# Altium integrated library Xilinx Spartan.IntLib: 39 symbols (part 1 of 3)
Pins are listed as number, name and electrical type; pins without a type are passive.

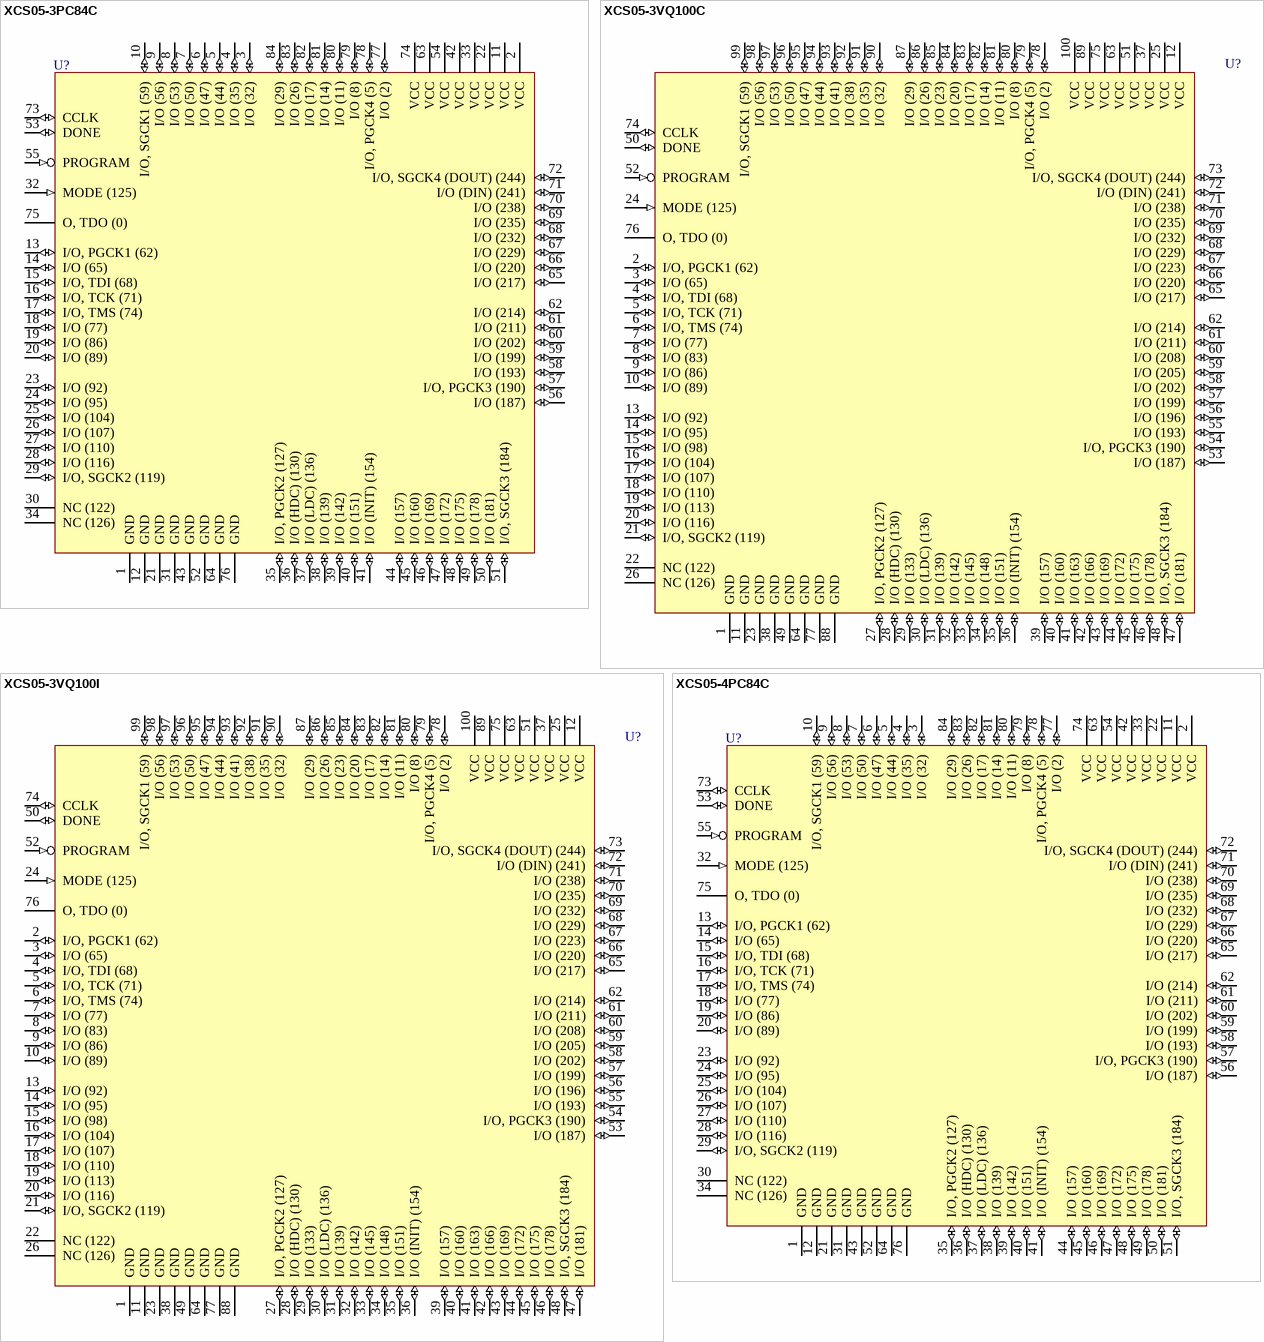
[diagram p0: symbols XCS05-3PC84C to XCS05-4PC84C]

## XCS05-3PC84C
designator U?
Spartan FPGA, 84-Pin PLCC, Commercial Grade; PackageDocument: ver1.0, Jun-2000; Published: 13-Jul-2001; LatestRevisionDate: 17-Jul-2002; LatestRevisionNote: Re-released for DXP Platform.; DatasheetDocument: Jun-2002; PackageReference: PC84; Publisher: Altium Limited; Code_JEDEC: MS-047; Code_IPC: PLCC-84
footprint PC84 (84-Pin Plastic Leaded Chip Carrier (PC84))
3D model XCS05-PC84 (84-Pin Plastic Leaded Chip Carrier (PC84))
pins: 1 GND (power), 2 VCC (power), 3 I/O (32) (io), 4 I/O (35) (io), 5 I/O (44) (io), 6 I/O (47) (io), 7 I/O (50) (io), 8 I/O (53) (io), 9 I/O (56) (io), 10 I/O, SGCK1 (59) (io), 11 VCC (power), 12 GND (power), 13 I/O, PGCK1 (62) (io), 14 I/O (65) (io), 15 I/O, TDI (68) (io), 16 I/O, TCK (71) (io), 17 I/O, TMS (74) (io), 18 I/O (77) (io), 19 I/O (86) (io), 20 I/O (89) (io), 21 GND (power), 22 VCC (power), 23 I/O (92) (io), 24 I/O (95) (io), 25 I/O (104) (io), 26 I/O (107) (io), 27 I/O (110) (io), 28 I/O (116) (io), 29 I/O, SGCK2 (119) (io), 30 NC (122), 31 GND (power), 32 MODE (125) (in), 33 VCC (power), 34 NC (126), 35 I/O, PGCK2 (127) (io), 36 I/O (HDC) (130) (io), 37 I/O (LDC) (136) (io), 38 I/O (139) (io), 39 I/O (142) (io), 40 I/O (151) (io), 41 I/O (INIT) (154) (io), 42 VCC (power), 43 GND (power), 44 I/O (157) (io), 45 I/O (160) (io), 46 I/O (169) (io), 47 I/O (172) (io), 48 I/O (175) (io), 49 I/O (178) (io), 50 I/O (181) (io), 51 I/O, SGCK3 (184) (io), 52 GND (power), 53 DONE (io), 54 VCC (power), 55 PROGRAM (in), 56 I/O (187) (io), 57 I/O, PGCK3 (190) (io), 58 I/O (193) (io), 59 I/O (199) (io), 60 I/O (202) (io), 61 I/O (211) (io), 62 I/O (214) (io), 63 VCC (power), 64 GND (power), 65 I/O (217) (io), 66 I/O (220) (io), 67 I/O (229) (io), 68 I/O (232) (io), 69 I/O (235) (io), 70 I/O (238) (io), 71 I/O (DIN) (241) (io), 72 I/O, SGCK4 (DOUT) (244) (io), 73 CCLK (io), 74 VCC (power), 75 O, TDO (0) (hiz), 76 GND (power), 77 I/O (2) (io), 78 I/O, PGCK4 (5) (io), 79 I/O (8) (io), 80 I/O (11) (io), 81 I/O (14) (io), 82 I/O (17) (io), 83 I/O (26) (io), 84 I/O (29) (io)

## XCS05-3VQ100C
designator U?
Spartan FPGA, 100-Pin VQFP, Commercial Grade; PackageDocument: ver1.1, Oct-2002; Published: 13-Jul-2001; LatestRevisionDate: 17-Jul-2002; LatestRevisionNote: Re-released for DXP Platform.; DatasheetDocument: Jun-2002; PackageReference: VQ100; Publisher: Altium Limited; Code_JEDEC: MS-026-AED; Code_IPC: SQFP14X14-100
footprint VQ100 (100-Pin Very Thin Quad Flat Pack (VQ100))
3D model XCS05-VQ100 (100-Pin Very Thin Quad Flat Pack (VQ100))
pins: 1 GND (power), 2 I/O, PGCK1 (62) (io), 3 I/O (65) (io), 4 I/O, TDI (68) (io), 5 I/O, TCK (71) (io), 6 I/O, TMS (74) (io), 7 I/O (77) (io), 8 I/O (83) (io), 9 I/O (86) (io), 10 I/O (89) (io), 11 GND (power), 12 VCC (power), 13 I/O (92) (io), 14 I/O (95) (io), 15 I/O (98) (io), 16 I/O (104) (io), 17 I/O (107) (io), 18 I/O (110) (io), 19 I/O (113) (io), 20 I/O (116) (io), 21 I/O, SGCK2 (119) (io), 22 NC (122), 23 GND (power), 24 MODE (125) (in), 25 VCC (power), 26 NC (126), 27 I/O, PGCK2 (127) (io), 28 I/O (HDC) (130) (io), 29 I/O (133) (io), 30 I/O (LDC) (136) (io), 31 I/O (139) (io), 32 I/O (142) (io), 33 I/O (145) (io), 34 I/O (148) (io), 35 I/O (151) (io), 36 I/O (INIT) (154) (io), 37 VCC (power), 38 GND (power), 39 I/O (157) (io), 40 I/O (160) (io), 41 I/O (163) (io), 42 I/O (166) (io), 43 I/O (169) (io), 44 I/O (172) (io), 45 I/O (175) (io), 46 I/O (178) (io), 47 I/O (181) (io), 48 I/O, SGCK3 (184) (io), 49 GND (power), 50 DONE (io), 51 VCC (power), 52 PROGRAM (in), 53 I/O (187) (io), 54 I/O, PGCK3 (190) (io), 55 I/O (193) (io), 56 I/O (196) (io), 57 I/O (199) (io), 58 I/O (202) (io), 59 I/O (205) (io), 60 I/O (208) (io), 61 I/O (211) (io), 62 I/O (214) (io), 63 VCC (power), 64 GND (power), 65 I/O (217) (io), 66 I/O (220) (io), 67 I/O (223) (io), 68 I/O (229) (io), 69 I/O (232) (io), 70 I/O (235) (io), 71 I/O (238) (io), 72 I/O (DIN) (241) (io), 73 I/O, SGCK4 (DOUT) (244) (io), 74 CCLK (io), 75 VCC (power), 76 O, TDO (0) (hiz), 77 GND (power), 78 I/O (2) (io), 79 I/O, PGCK4 (5) (io), 80 I/O (8) (io), 81 I/O (11) (io), 82 I/O (14) (io), 83 I/O (17) (io), 84 I/O (20) (io), 85 I/O (23) (io), 86 I/O (26) (io), 87 I/O (29) (io), 88 GND (power), 89 VCC (power), 90 I/O (32) (io), 91 I/O (35) (io), 92 I/O (38) (io), 93 I/O (41) (io), 94 I/O (44) (io), 95 I/O (47) (io), 96 I/O (50) (io), 97 I/O (53) (io), 98 I/O (56) (io), 99 I/O, SGCK1 (59) (io), 100 VCC (power)

## XCS05-3VQ100I
designator U?
Spartan FPGA, 100-Pin VQFP, Industrial Grade; PackageDocument: ver1.1, Oct-2002; Published: 13-Jul-2001; LatestRevisionDate: 17-Jul-2002; LatestRevisionNote: Re-released for DXP Platform.; DatasheetDocument: Jun-2002; PackageReference: VQ100; Publisher: Altium Limited; Code_JEDEC: MS-026-AED; Code_IPC: SQFP14X14-100
footprint VQ100 (100-Pin Very Thin Quad Flat Pack (VQ100))
3D model XCS05-VQ100 (100-Pin Very Thin Quad Flat Pack (VQ100))
pins: 1 GND (power), 2 I/O, PGCK1 (62) (io), 3 I/O (65) (io), 4 I/O, TDI (68) (io), 5 I/O, TCK (71) (io), 6 I/O, TMS (74) (io), 7 I/O (77) (io), 8 I/O (83) (io), 9 I/O (86) (io), 10 I/O (89) (io), 11 GND (power), 12 VCC (power), 13 I/O (92) (io), 14 I/O (95) (io), 15 I/O (98) (io), 16 I/O (104) (io), 17 I/O (107) (io), 18 I/O (110) (io), 19 I/O (113) (io), 20 I/O (116) (io), 21 I/O, SGCK2 (119) (io), 22 NC (122), 23 GND (power), 24 MODE (125) (in), 25 VCC (power), 26 NC (126), 27 I/O, PGCK2 (127) (io), 28 I/O (HDC) (130) (io), 29 I/O (133) (io), 30 I/O (LDC) (136) (io), 31 I/O (139) (io), 32 I/O (142) (io), 33 I/O (145) (io), 34 I/O (148) (io), 35 I/O (151) (io), 36 I/O (INIT) (154) (io), 37 VCC (power), 38 GND (power), 39 I/O (157) (io), 40 I/O (160) (io), 41 I/O (163) (io), 42 I/O (166) (io), 43 I/O (169) (io), 44 I/O (172) (io), 45 I/O (175) (io), 46 I/O (178) (io), 47 I/O (181) (io), 48 I/O, SGCK3 (184) (io), 49 GND (power), 50 DONE (io), 51 VCC (power), 52 PROGRAM (in), 53 I/O (187) (io), 54 I/O, PGCK3 (190) (io), 55 I/O (193) (io), 56 I/O (196) (io), 57 I/O (199) (io), 58 I/O (202) (io), 59 I/O (205) (io), 60 I/O (208) (io), 61 I/O (211) (io), 62 I/O (214) (io), 63 VCC (power), 64 GND (power), 65 I/O (217) (io), 66 I/O (220) (io), 67 I/O (223) (io), 68 I/O (229) (io), 69 I/O (232) (io), 70 I/O (235) (io), 71 I/O (238) (io), 72 I/O (DIN) (241) (io), 73 I/O, SGCK4 (DOUT) (244) (io), 74 CCLK (io), 75 VCC (power), 76 O, TDO (0) (hiz), 77 GND (power), 78 I/O (2) (io), 79 I/O, PGCK4 (5) (io), 80 I/O (8) (io), 81 I/O (11) (io), 82 I/O (14) (io), 83 I/O (17) (io), 84 I/O (20) (io), 85 I/O (23) (io), 86 I/O (26) (io), 87 I/O (29) (io), 88 GND (power), 89 VCC (power), 90 I/O (32) (io), 91 I/O (35) (io), 92 I/O (38) (io), 93 I/O (41) (io), 94 I/O (44) (io), 95 I/O (47) (io), 96 I/O (50) (io), 97 I/O (53) (io), 98 I/O (56) (io), 99 I/O, SGCK1 (59) (io), 100 VCC (power)

## XCS05-4PC84C
designator U?
Spartan FPGA, 84-Pin PLCC, Commercial Grade; PackageDocument: ver1.0, Jun-2000; Published: 13-Jul-2001; LatestRevisionDate: 17-Jul-2002; LatestRevisionNote: Re-released for DXP Platform.; DatasheetDocument: Jun-2002; PackageReference: PC84; Publisher: Altium Limited; Code_JEDEC: MS-047; Code_IPC: PLCC-84
footprint PC84 (84-Pin Plastic Leaded Chip Carrier (PC84))
3D model XCS05-PC84 (84-Pin Plastic Leaded Chip Carrier (PC84))
pins: 1 GND (power), 2 VCC (power), 3 I/O (32) (io), 4 I/O (35) (io), 5 I/O (44) (io), 6 I/O (47) (io), 7 I/O (50) (io), 8 I/O (53) (io), 9 I/O (56) (io), 10 I/O, SGCK1 (59) (io), 11 VCC (power), 12 GND (power), 13 I/O, PGCK1 (62) (io), 14 I/O (65) (io), 15 I/O, TDI (68) (io), 16 I/O, TCK (71) (io), 17 I/O, TMS (74) (io), 18 I/O (77) (io), 19 I/O (86) (io), 20 I/O (89) (io), 21 GND (power), 22 VCC (power), 23 I/O (92) (io), 24 I/O (95) (io), 25 I/O (104) (io), 26 I/O (107) (io), 27 I/O (110) (io), 28 I/O (116) (io), 29 I/O, SGCK2 (119) (io), 30 NC (122), 31 GND (power), 32 MODE (125) (in), 33 VCC (power), 34 NC (126), 35 I/O, PGCK2 (127) (io), 36 I/O (HDC) (130) (io), 37 I/O (LDC) (136) (io), 38 I/O (139) (io), 39 I/O (142) (io), 40 I/O (151) (io), 41 I/O (INIT) (154) (io), 42 VCC (power), 43 GND (power), 44 I/O (157) (io), 45 I/O (160) (io), 46 I/O (169) (io), 47 I/O (172) (io), 48 I/O (175) (io), 49 I/O (178) (io), 50 I/O (181) (io), 51 I/O, SGCK3 (184) (io), 52 GND (power), 53 DONE (io), 54 VCC (power), 55 PROGRAM (in), 56 I/O (187) (io), 57 I/O, PGCK3 (190) (io), 58 I/O (193) (io), 59 I/O (199) (io), 60 I/O (202) (io), 61 I/O (211) (io), 62 I/O (214) (io), 63 VCC (power), 64 GND (power), 65 I/O (217) (io), 66 I/O (220) (io), 67 I/O (229) (io), 68 I/O (232) (io), 69 I/O (235) (io), 70 I/O (238) (io), 71 I/O (DIN) (241) (io), 72 I/O, SGCK4 (DOUT) (244) (io), 73 CCLK (io), 74 VCC (power), 75 O, TDO (0) (hiz), 76 GND (power), 77 I/O (2) (io), 78 I/O, PGCK4 (5) (io), 79 I/O (8) (io), 80 I/O (11) (io), 81 I/O (14) (io), 82 I/O (17) (io), 83 I/O (26) (io), 84 I/O (29) (io)

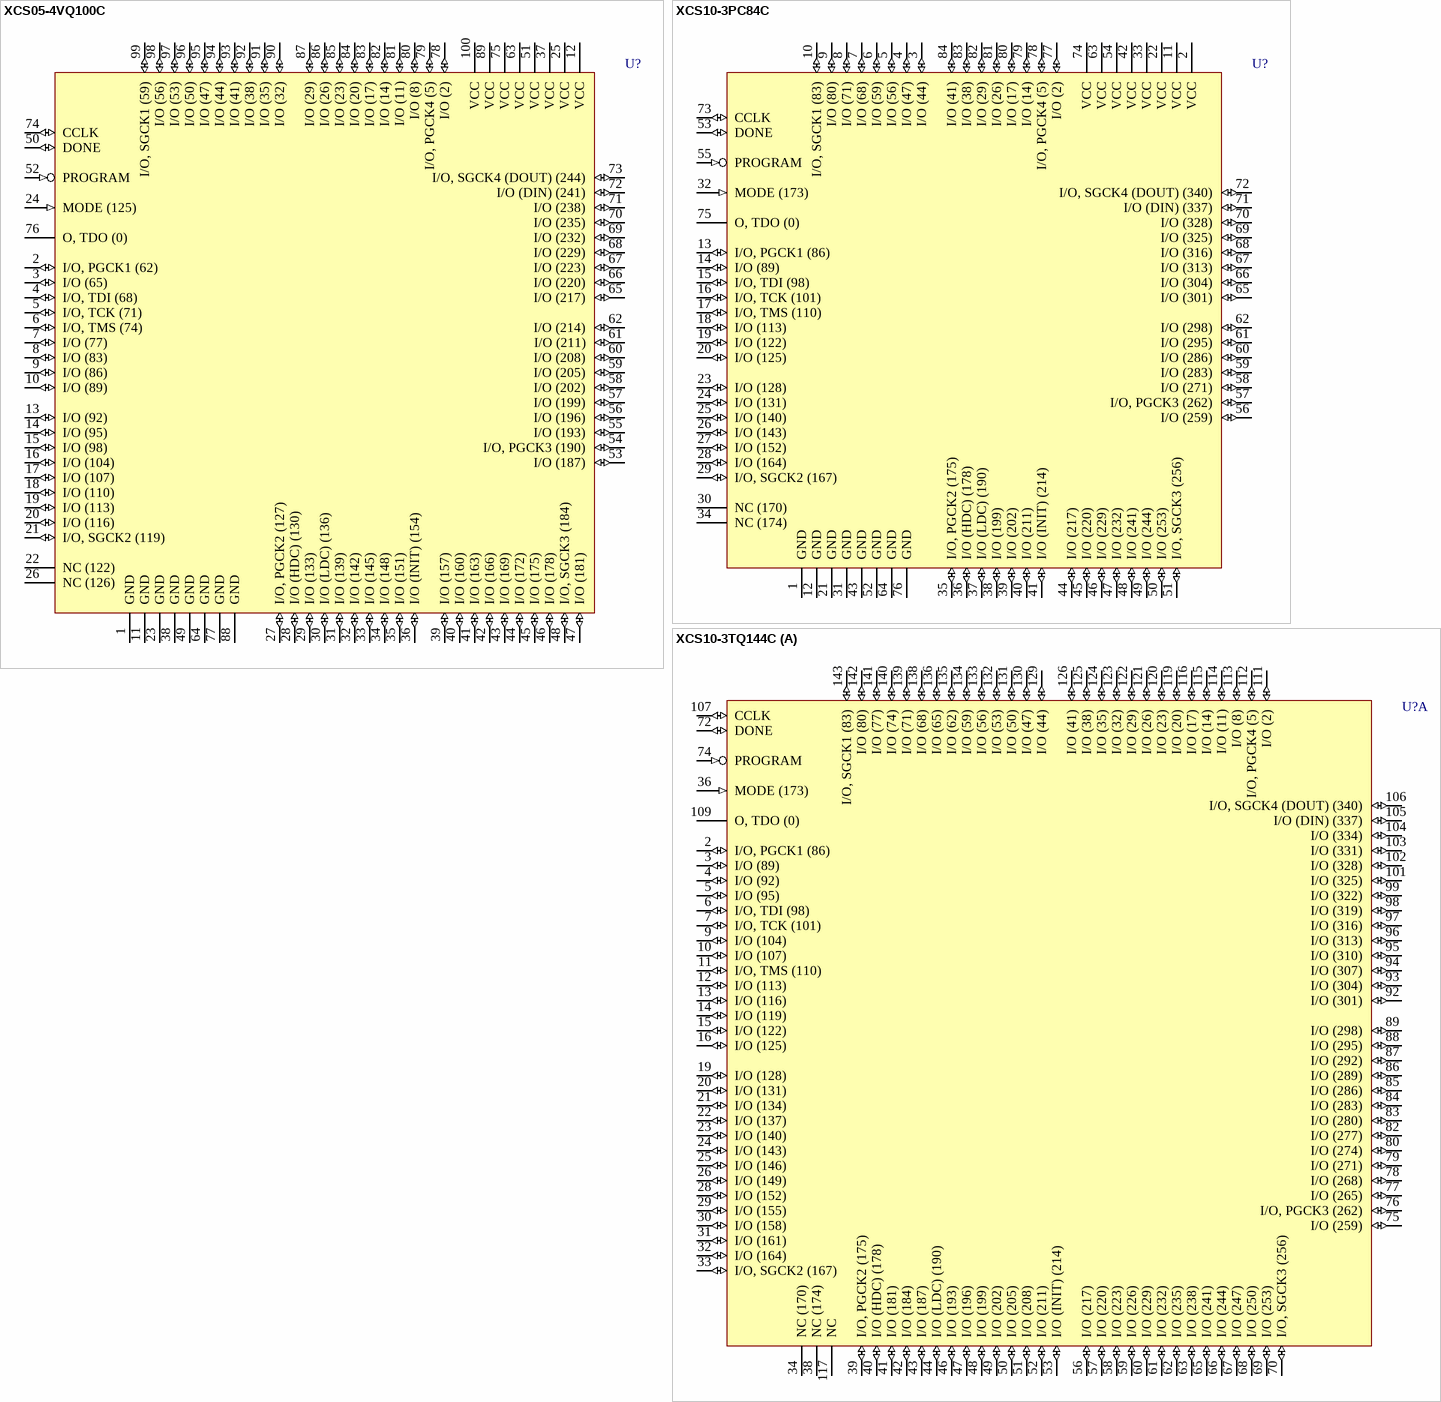
[diagram p1: symbols XCS05-4VQ100C to XCS10-3TQ144C]

## XCS05-4VQ100C
designator U?
Spartan FPGA, 100-Pin VQFP, Commercial Grade; PackageDocument: ver1.1, Oct-2002; Published: 13-Jul-2001; LatestRevisionDate: 17-Jul-2002; LatestRevisionNote: Re-released for DXP Platform.; DatasheetDocument: Jun-2002; PackageReference: VQ100; Publisher: Altium Limited; Code_JEDEC: MS-026-AED; Code_IPC: SQFP14X14-100
footprint VQ100 (100-Pin Very Thin Quad Flat Pack (VQ100))
3D model XCS05-VQ100 (100-Pin Very Thin Quad Flat Pack (VQ100))
pins: 1 GND (power), 2 I/O, PGCK1 (62) (io), 3 I/O (65) (io), 4 I/O, TDI (68) (io), 5 I/O, TCK (71) (io), 6 I/O, TMS (74) (io), 7 I/O (77) (io), 8 I/O (83) (io), 9 I/O (86) (io), 10 I/O (89) (io), 11 GND (power), 12 VCC (power), 13 I/O (92) (io), 14 I/O (95) (io), 15 I/O (98) (io), 16 I/O (104) (io), 17 I/O (107) (io), 18 I/O (110) (io), 19 I/O (113) (io), 20 I/O (116) (io), 21 I/O, SGCK2 (119) (io), 22 NC (122), 23 GND (power), 24 MODE (125) (in), 25 VCC (power), 26 NC (126), 27 I/O, PGCK2 (127) (io), 28 I/O (HDC) (130) (io), 29 I/O (133) (io), 30 I/O (LDC) (136) (io), 31 I/O (139) (io), 32 I/O (142) (io), 33 I/O (145) (io), 34 I/O (148) (io), 35 I/O (151) (io), 36 I/O (INIT) (154) (io), 37 VCC (power), 38 GND (power), 39 I/O (157) (io), 40 I/O (160) (io), 41 I/O (163) (io), 42 I/O (166) (io), 43 I/O (169) (io), 44 I/O (172) (io), 45 I/O (175) (io), 46 I/O (178) (io), 47 I/O (181) (io), 48 I/O, SGCK3 (184) (io), 49 GND (power), 50 DONE (io), 51 VCC (power), 52 PROGRAM (in), 53 I/O (187) (io), 54 I/O, PGCK3 (190) (io), 55 I/O (193) (io), 56 I/O (196) (io), 57 I/O (199) (io), 58 I/O (202) (io), 59 I/O (205) (io), 60 I/O (208) (io), 61 I/O (211) (io), 62 I/O (214) (io), 63 VCC (power), 64 GND (power), 65 I/O (217) (io), 66 I/O (220) (io), 67 I/O (223) (io), 68 I/O (229) (io), 69 I/O (232) (io), 70 I/O (235) (io), 71 I/O (238) (io), 72 I/O (DIN) (241) (io), 73 I/O, SGCK4 (DOUT) (244) (io), 74 CCLK (io), 75 VCC (power), 76 O, TDO (0) (hiz), 77 GND (power), 78 I/O (2) (io), 79 I/O, PGCK4 (5) (io), 80 I/O (8) (io), 81 I/O (11) (io), 82 I/O (14) (io), 83 I/O (17) (io), 84 I/O (20) (io), 85 I/O (23) (io), 86 I/O (26) (io), 87 I/O (29) (io), 88 GND (power), 89 VCC (power), 90 I/O (32) (io), 91 I/O (35) (io), 92 I/O (38) (io), 93 I/O (41) (io), 94 I/O (44) (io), 95 I/O (47) (io), 96 I/O (50) (io), 97 I/O (53) (io), 98 I/O (56) (io), 99 I/O, SGCK1 (59) (io), 100 VCC (power)

## XCS10-3PC84C
designator U?
Spartan FPGA, 84-Pin PLCC, Commercial Grade; PackageDocument: ver1.0, Jun-2000; Published: 13-Jul-2001; LatestRevisionDate: 17-Jul-2002; LatestRevisionNote: Re-released for DXP Platform.; DatasheetDocument: Jun-2002; PackageReference: PC84; Publisher: Altium Limited; Code_JEDEC: MS-047; Code_IPC: PLCC-84
footprint PC84 (84-Pin Plastic Leaded Chip Carrier (PC84))
3D model XCS10-PC84 (84-Pin Plastic Leaded Chip Carrier (PC84))
pins: 1 GND (power), 2 VCC (power), 3 I/O (44) (io), 4 I/O (47) (io), 5 I/O (56) (io), 6 I/O (59) (io), 7 I/O (68) (io), 8 I/O (71) (io), 9 I/O (80) (io), 10 I/O, SGCK1 (83) (io), 11 VCC (power), 12 GND (power), 13 I/O, PGCK1 (86) (io), 14 I/O (89) (io), 15 I/O, TDI (98) (io), 16 I/O, TCK (101) (io), 17 I/O, TMS (110) (io), 18 I/O (113) (io), 19 I/O (122) (io), 20 I/O (125) (io), 21 GND (power), 22 VCC (power), 23 I/O (128) (io), 24 I/O (131) (io), 25 I/O (140) (io), 26 I/O (143) (io), 27 I/O (152) (io), 28 I/O (164) (io), 29 I/O, SGCK2 (167) (io), 30 NC (170), 31 GND (power), 32 MODE (173) (in), 33 VCC (power), 34 NC (174), 35 I/O, PGCK2 (175) (io), 36 I/O (HDC) (178) (io), 37 I/O (LDC) (190) (io), 38 I/O (199) (io), 39 I/O (202) (io), 40 I/O (211) (io), 41 I/O (INIT) (214) (io), 42 VCC (power), 43 GND (power), 44 I/O (217) (io), 45 I/O (220) (io), 46 I/O (229) (io), 47 I/O (232) (io), 48 I/O (241) (io), 49 I/O (244) (io), 50 I/O (253) (io), 51 I/O, SGCK3 (256) (io), 52 GND (power), 53 DONE (io), 54 VCC (power), 55 PROGRAM (in), 56 I/O (259) (io), 57 I/O, PGCK3 (262) (io), 58 I/O (271) (io), 59 I/O (283) (io), 60 I/O (286) (io), 61 I/O (295) (io), 62 I/O (298) (io), 63 VCC (power), 64 GND (power), 65 I/O (301) (io), 66 I/O (304) (io), 67 I/O (313) (io), 68 I/O (316) (io), 69 I/O (325) (io), 70 I/O (328) (io), 71 I/O (DIN) (337) (io), 72 I/O, SGCK4 (DOUT) (340) (io), 73 CCLK (io), 74 VCC (power), 75 O, TDO (0) (hiz), 76 GND (power), 77 I/O (2) (io), 78 I/O, PGCK4 (5) (io), 79 I/O (14) (io), 80 I/O (17) (io), 81 I/O (26) (io), 82 I/O (29) (io), 83 I/O (38) (io), 84 I/O (41) (io)

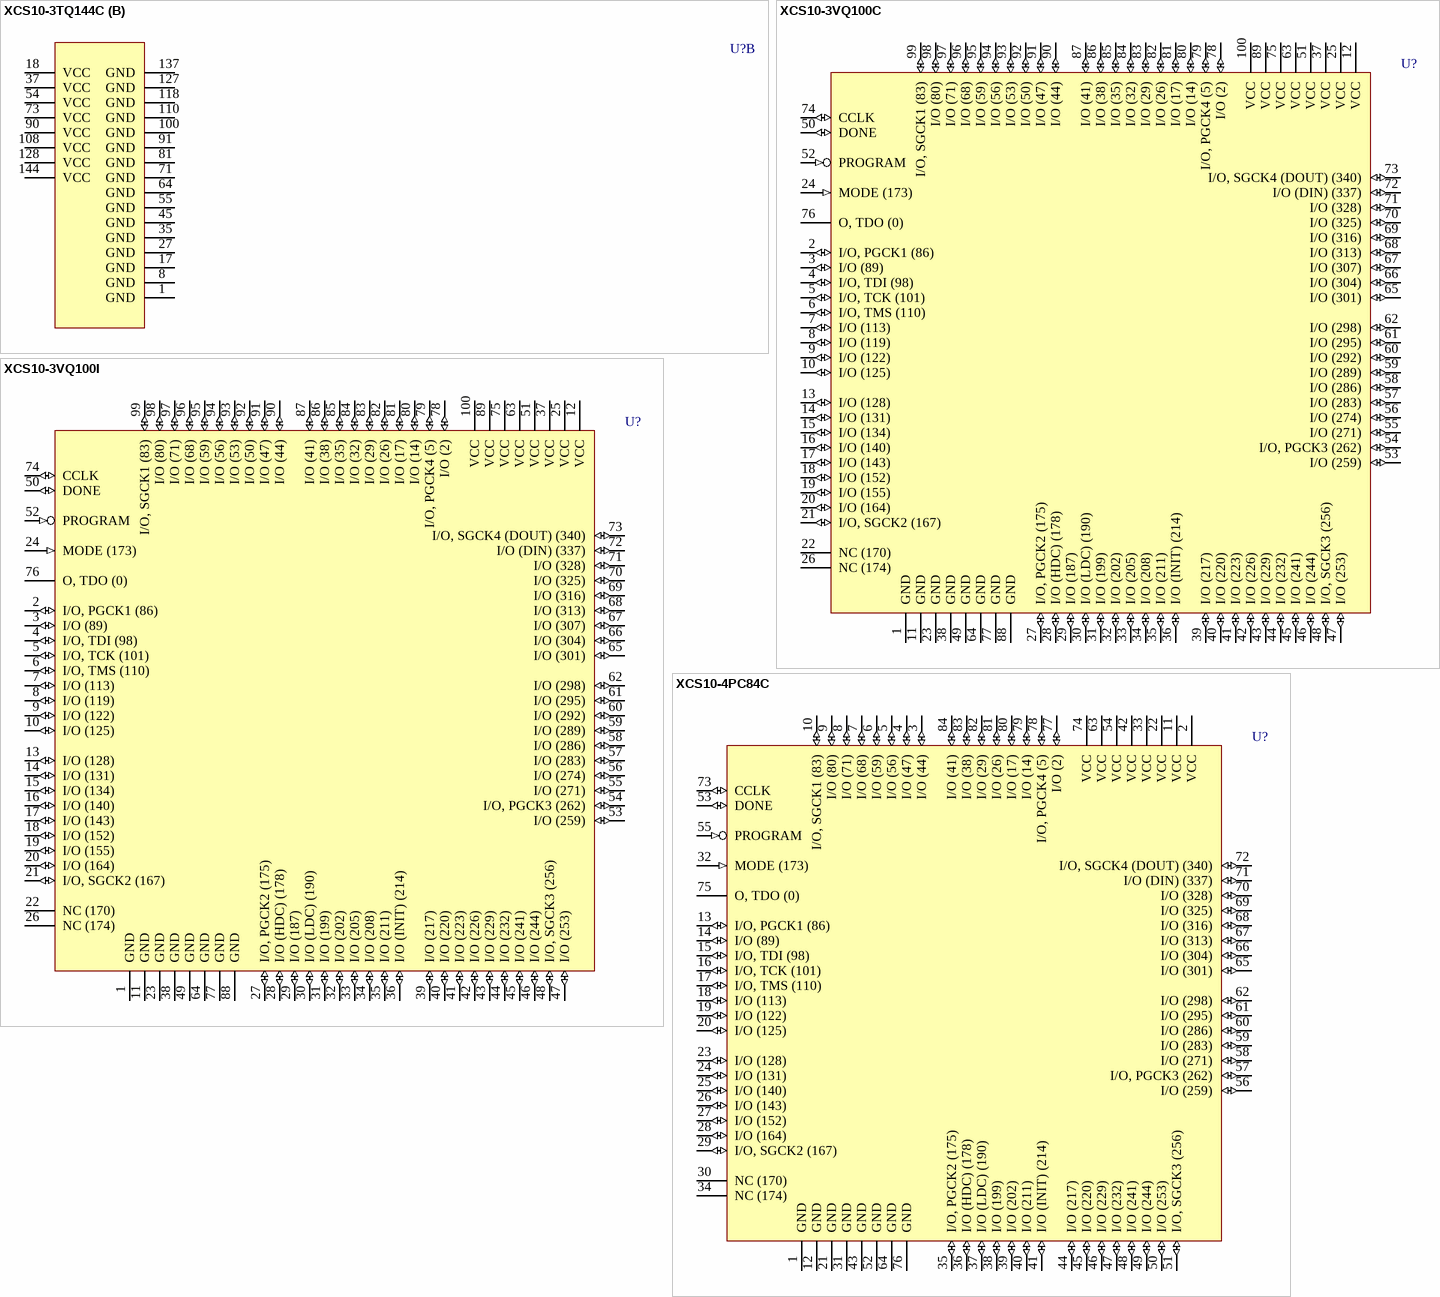
[diagram p2: symbols XCS10-3TQ144C to XCS10-4PC84C]

## XCS10-3TQ144C
designator U?
Spartan FPGA, 144-Pin TQFP, Commercial Grade; PackageDocument: ver1.1, Oct-2002; Published: 13-Jul-2001; LatestRevisionDate: 17-Jul-2002; LatestRevisionNote: Re-released for DXP Platform.; DatasheetDocument: Jun-2002; PackageReference: TQ144; Publisher: Altium Limited; Code_JEDEC: MS-026-BFB; Code_IPC: SQFP20X20-144
footprint TQ144 (144-Pin Thin Quad Flat Pack (TQ144))
3D model XCS10-TQ144 (144-Pin Thin Quad Flat Pack (TQ144))
part A pins: 2 I/O, PGCK1 (86) (io), 3 I/O (89) (io), 4 I/O (92) (io), 5 I/O (95) (io), 6 I/O, TDI (98) (io), 7 I/O, TCK (101) (io), 9 I/O (104) (io), 10 I/O (107) (io), 11 I/O, TMS (110) (io), 12 I/O (113) (io), 13 I/O (116) (io), 14 I/O (119) (io), 15 I/O (122) (io), 16 I/O (125) (io), 19 I/O (128) (io), 20 I/O (131) (io), 21 I/O (134) (io), 22 I/O (137) (io), 23 I/O (140) (io), 24 I/O (143) (io), 25 I/O (146) (io), 26 I/O (149) (io), 28 I/O (152) (io), 29 I/O (155) (io), 30 I/O (158) (io), 31 I/O (161) (io), 32 I/O (164) (io), 33 I/O, SGCK2 (167) (io), 34 NC (170), 36 MODE (173) (in), 38 NC (174), 39 I/O, PGCK2 (175) (io), 40 I/O (HDC) (178) (io), 41 I/O (181) (io), 42 I/O (184) (io), 43 I/O (187) (io), 44 I/O (LDC) (190) (io), 46 I/O (193) (io), 47 I/O (196) (io), 48 I/O (199) (io), 49 I/O (202) (io), 50 I/O (205) (io), 51 I/O (208) (io), 52 I/O (211) (io), 53 I/O (INIT) (214) (io), 56 I/O (217) (io), 57 I/O (220) (io), 58 I/O (223) (io), 59 I/O (226) (io), 60 I/O (229) (io), 61 I/O (232) (io), 62 I/O (235) (io), 63 I/O (238) (io), 65 I/O (241) (io), 66 I/O (244) (io), 67 I/O (247) (io), 68 I/O (250) (io), 69 I/O (253) (io), 70 I/O, SGCK3 (256) (io), 72 DONE (io), 74 PROGRAM (in), 75 I/O (259) (io), 76 I/O, PGCK3 (262) (io), 77 I/O (265) (io), 78 I/O (268) (io), 79 I/O (271) (io), 80 I/O (274) (io), 82 I/O (277) (io), 83 I/O (280) (io), 84 I/O (283) (io), 85 I/O (286) (io), 86 I/O (289) (io), 87 I/O (292) (io), 88 I/O (295) (io), 89 I/O (298) (io), 92 I/O (301) (io), 93 I/O (304) (io), 94 I/O (307) (io), 95 I/O (310) (io), 96 I/O (313) (io), 97 I/O (316) (io), 98 I/O (319) (io), 99 I/O (322) (io), 101 I/O (325) (io), 102 I/O (328) (io), 103 I/O (331) (io), 104 I/O (334) (io), 105 I/O (DIN) (337) (io), 106 I/O, SGCK4 (DOUT) (340) (io), 107 CCLK (io), 109 O, TDO (0) (hiz), 111 I/O (2) (io), 112 I/O, PGCK4 (5) (io), 113 I/O (8) (io), 114 I/O (11) (io), 115 I/O (14) (io), 116 I/O (17) (io), 117 NC, 119 I/O (20) (io), 120 I/O (23) (io), 121 I/O (26) (io), 122 I/O (29) (io), 123 I/O (32) (io), 124 I/O (35) (io), 125 I/O (38) (io), 126 I/O (41) (io), 129 I/O (44) (io), 130 I/O (47) (io), 131 I/O (50) (io), 132 I/O (53) (io), 133 I/O (56) (io), 134 I/O (59) (io), 135 I/O (62) (io), 136 I/O (65) (io), 138 I/O (68) (io), 139 I/O (71) (io), 140 I/O (74) (io), 141 I/O (77) (io), 142 I/O (80) (io), 143 I/O, SGCK1 (83) (io)
part B pins: 1 GND (power), 8 GND (power), 17 GND (power), 18 VCC (power), 27 GND (power), 35 GND (power), 37 VCC (power), 45 GND (power), 54 VCC (power), 55 GND (power), 64 GND (power), 71 GND (power), 73 VCC (power), 81 GND (power), 90 VCC (power), 91 GND (power), 100 GND (power), 108 VCC (power), 110 GND (power), 118 GND (power), 127 GND (power), 128 VCC (power), 137 GND (power), 144 VCC (power)

## XCS10-3VQ100C
designator U?
Spartan FPGA, 100-Pin VQFP, Commercial Grade; PackageDocument: ver1.1, Oct-2002; Published: 13-Jul-2001; LatestRevisionDate: 17-Jul-2002; LatestRevisionNote: Re-released for DXP Platform.; DatasheetDocument: Jun-2002; PackageReference: VQ100; Publisher: Altium Limited; Code_JEDEC: MS-026-AED; Code_IPC: SQFP14X14-100
footprint VQ100 (100-Pin Very Thin Quad Flat Pack (VQ100))
3D model XCS10-VQ100 (100-Pin Very Thin Quad Flat Pack (VQ100))
pins: 1 GND (power), 2 I/O, PGCK1 (86) (io), 3 I/O (89) (io), 4 I/O, TDI (98) (io), 5 I/O, TCK (101) (io), 6 I/O, TMS (110) (io), 7 I/O (113) (io), 8 I/O (119) (io), 9 I/O (122) (io), 10 I/O (125) (io), 11 GND (power), 12 VCC (power), 13 I/O (128) (io), 14 I/O (131) (io), 15 I/O (134) (io), 16 I/O (140) (io), 17 I/O (143) (io), 18 I/O (152) (io), 19 I/O (155) (io), 20 I/O (164) (io), 21 I/O, SGCK2 (167) (io), 22 NC (170), 23 GND (power), 24 MODE (173) (in), 25 VCC (power), 26 NC (174), 27 I/O, PGCK2 (175) (io), 28 I/O (HDC) (178) (io), 29 I/O (187) (io), 30 I/O (LDC) (190) (io), 31 I/O (199) (io), 32 I/O (202) (io), 33 I/O (205) (io), 34 I/O (208) (io), 35 I/O (211) (io), 36 I/O (INIT) (214) (io), 37 VCC (power), 38 GND (power), 39 I/O (217) (io), 40 I/O (220) (io), 41 I/O (223) (io), 42 I/O (226) (io), 43 I/O (229) (io), 44 I/O (232) (io), 45 I/O (241) (io), 46 I/O (244) (io), 47 I/O (253) (io), 48 I/O, SGCK3 (256) (io), 49 GND (power), 50 DONE (io), 51 VCC (power), 52 PROGRAM (in), 53 I/O (259) (io), 54 I/O, PGCK3 (262) (io), 55 I/O (271) (io), 56 I/O (274) (io), 57 I/O (283) (io), 58 I/O (286) (io), 59 I/O (289) (io), 60 I/O (292) (io), 61 I/O (295) (io), 62 I/O (298) (io), 63 VCC (power), 64 GND (power), 65 I/O (301) (io), 66 I/O (304) (io), 67 I/O (307) (io), 68 I/O (313) (io), 69 I/O (316) (io), 70 I/O (325) (io), 71 I/O (328) (io), 72 I/O (DIN) (337) (io), 73 I/O, SGCK4 (DOUT) (340) (io), 74 CCLK (io), 75 VCC (power), 76 O, TDO (0) (hiz), 77 GND (power), 78 I/O (2) (io), 79 I/O, PGCK4 (5) (io), 80 I/O (14) (io), 81 I/O (17) (io), 82 I/O (26) (io), 83 I/O (29) (io), 84 I/O (32) (io), 85 I/O (35) (io), 86 I/O (38) (io), 87 I/O (41) (io), 88 GND (power), 89 VCC (power), 90 I/O (44) (io), 91 I/O (47) (io), 92 I/O (50) (io), 93 I/O (53) (io), 94 I/O (56) (io), 95 I/O (59) (io), 96 I/O (68) (io), 97 I/O (71) (io), 98 I/O (80) (io), 99 I/O, SGCK1 (83) (io), 100 VCC (power)

## XCS10-3VQ100I
designator U?
Spartan FPGA, 100-Pin VQFP, Industrial Grade; PackageDocument: ver1.1, Oct-2002; Published: 13-Jul-2001; LatestRevisionDate: 17-Jul-2002; LatestRevisionNote: Re-released for DXP Platform.; DatasheetDocument: Jun-2002; PackageReference: VQ100; Publisher: Altium Limited; Code_JEDEC: MS-026-AED; Code_IPC: SQFP14X14-100
footprint VQ100 (100-Pin Very Thin Quad Flat Pack (VQ100))
3D model XCS10-VQ100 (100-Pin Very Thin Quad Flat Pack (VQ100))
pins: 1 GND (power), 2 I/O, PGCK1 (86) (io), 3 I/O (89) (io), 4 I/O, TDI (98) (io), 5 I/O, TCK (101) (io), 6 I/O, TMS (110) (io), 7 I/O (113) (io), 8 I/O (119) (io), 9 I/O (122) (io), 10 I/O (125) (io), 11 GND (power), 12 VCC (power), 13 I/O (128) (io), 14 I/O (131) (io), 15 I/O (134) (io), 16 I/O (140) (io), 17 I/O (143) (io), 18 I/O (152) (io), 19 I/O (155) (io), 20 I/O (164) (io), 21 I/O, SGCK2 (167) (io), 22 NC (170), 23 GND (power), 24 MODE (173) (in), 25 VCC (power), 26 NC (174), 27 I/O, PGCK2 (175) (io), 28 I/O (HDC) (178) (io), 29 I/O (187) (io), 30 I/O (LDC) (190) (io), 31 I/O (199) (io), 32 I/O (202) (io), 33 I/O (205) (io), 34 I/O (208) (io), 35 I/O (211) (io), 36 I/O (INIT) (214) (io), 37 VCC (power), 38 GND (power), 39 I/O (217) (io), 40 I/O (220) (io), 41 I/O (223) (io), 42 I/O (226) (io), 43 I/O (229) (io), 44 I/O (232) (io), 45 I/O (241) (io), 46 I/O (244) (io), 47 I/O (253) (io), 48 I/O, SGCK3 (256) (io), 49 GND (power), 50 DONE (io), 51 VCC (power), 52 PROGRAM (in), 53 I/O (259) (io), 54 I/O, PGCK3 (262) (io), 55 I/O (271) (io), 56 I/O (274) (io), 57 I/O (283) (io), 58 I/O (286) (io), 59 I/O (289) (io), 60 I/O (292) (io), 61 I/O (295) (io), 62 I/O (298) (io), 63 VCC (power), 64 GND (power), 65 I/O (301) (io), 66 I/O (304) (io), 67 I/O (307) (io), 68 I/O (313) (io), 69 I/O (316) (io), 70 I/O (325) (io), 71 I/O (328) (io), 72 I/O (DIN) (337) (io), 73 I/O, SGCK4 (DOUT) (340) (io), 74 CCLK (io), 75 VCC (power), 76 O, TDO (0) (hiz), 77 GND (power), 78 I/O (2) (io), 79 I/O, PGCK4 (5) (io), 80 I/O (14) (io), 81 I/O (17) (io), 82 I/O (26) (io), 83 I/O (29) (io), 84 I/O (32) (io), 85 I/O (35) (io), 86 I/O (38) (io), 87 I/O (41) (io), 88 GND (power), 89 VCC (power), 90 I/O (44) (io), 91 I/O (47) (io), 92 I/O (50) (io), 93 I/O (53) (io), 94 I/O (56) (io), 95 I/O (59) (io), 96 I/O (68) (io), 97 I/O (71) (io), 98 I/O (80) (io), 99 I/O, SGCK1 (83) (io), 100 VCC (power)

## XCS10-4PC84C
designator U?
Spartan FPGA, 84-Pin PLCC, Commercial Grade; PackageDocument: ver1.0, Jun-2000; Published: 13-Jul-2001; LatestRevisionDate: 17-Jul-2002; LatestRevisionNote: Re-released for DXP Platform.; DatasheetDocument: Jun-2002; PackageReference: PC84; Publisher: Altium Limited; Code_JEDEC: MS-047; Code_IPC: PLCC-84
footprint PC84 (84-Pin Plastic Leaded Chip Carrier (PC84))
3D model XCS10-PC84 (84-Pin Plastic Leaded Chip Carrier (PC84))
pins: 1 GND (power), 2 VCC (power), 3 I/O (44) (io), 4 I/O (47) (io), 5 I/O (56) (io), 6 I/O (59) (io), 7 I/O (68) (io), 8 I/O (71) (io), 9 I/O (80) (io), 10 I/O, SGCK1 (83) (io), 11 VCC (power), 12 GND (power), 13 I/O, PGCK1 (86) (io), 14 I/O (89) (io), 15 I/O, TDI (98) (io), 16 I/O, TCK (101) (io), 17 I/O, TMS (110) (io), 18 I/O (113) (io), 19 I/O (122) (io), 20 I/O (125) (io), 21 GND (power), 22 VCC (power), 23 I/O (128) (io), 24 I/O (131) (io), 25 I/O (140) (io), 26 I/O (143) (io), 27 I/O (152) (io), 28 I/O (164) (io), 29 I/O, SGCK2 (167) (io), 30 NC (170), 31 GND (power), 32 MODE (173) (in), 33 VCC (power), 34 NC (174), 35 I/O, PGCK2 (175) (io), 36 I/O (HDC) (178) (io), 37 I/O (LDC) (190) (io), 38 I/O (199) (io), 39 I/O (202) (io), 40 I/O (211) (io), 41 I/O (INIT) (214) (io), 42 VCC (power), 43 GND (power), 44 I/O (217) (io), 45 I/O (220) (io), 46 I/O (229) (io), 47 I/O (232) (io), 48 I/O (241) (io), 49 I/O (244) (io), 50 I/O (253) (io), 51 I/O, SGCK3 (256) (io), 52 GND (power), 53 DONE (io), 54 VCC (power), 55 PROGRAM (in), 56 I/O (259) (io), 57 I/O, PGCK3 (262) (io), 58 I/O (271) (io), 59 I/O (283) (io), 60 I/O (286) (io), 61 I/O (295) (io), 62 I/O (298) (io), 63 VCC (power), 64 GND (power), 65 I/O (301) (io), 66 I/O (304) (io), 67 I/O (313) (io), 68 I/O (316) (io), 69 I/O (325) (io), 70 I/O (328) (io), 71 I/O (DIN) (337) (io), 72 I/O, SGCK4 (DOUT) (340) (io), 73 CCLK (io), 74 VCC (power), 75 O, TDO (0) (hiz), 76 GND (power), 77 I/O (2) (io), 78 I/O, PGCK4 (5) (io), 79 I/O (14) (io), 80 I/O (17) (io), 81 I/O (26) (io), 82 I/O (29) (io), 83 I/O (38) (io), 84 I/O (41) (io)

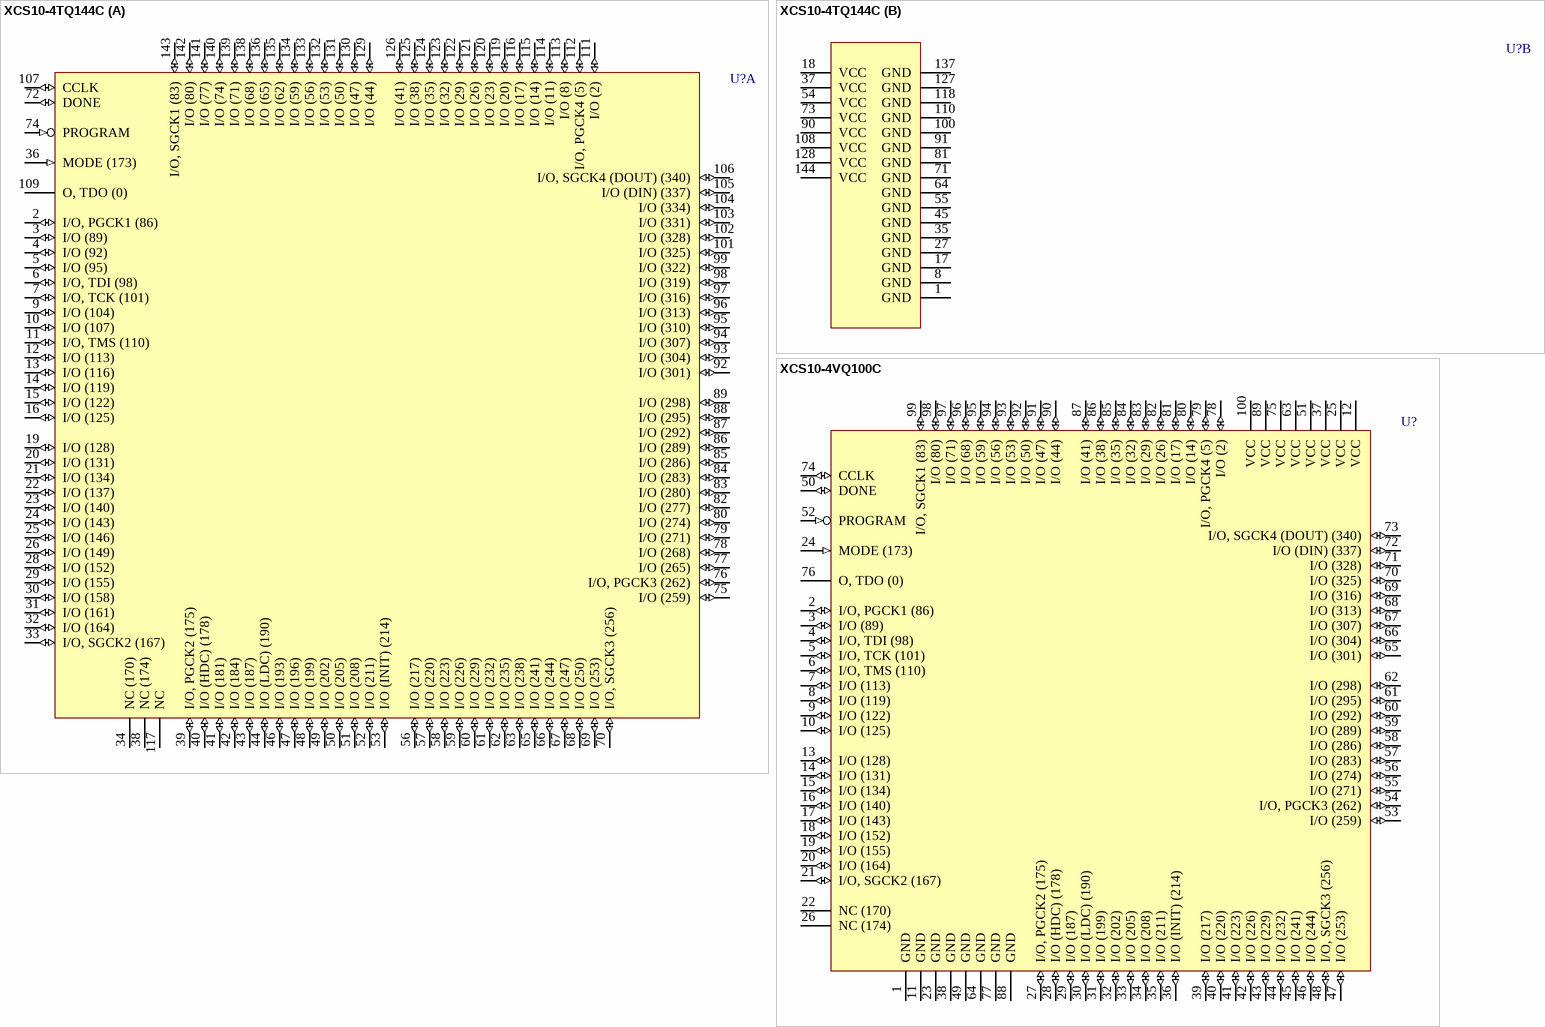
[diagram p3: symbols XCS10-4TQ144C to XCS10-4VQ100C]

## XCS10-4TQ144C
designator U?
Spartan FPGA, 144-Pin TQFP, Commercial Grade; PackageDocument: ver1.1, Oct-2002; Published: 13-Jul-2001; LatestRevisionDate: 17-Jul-2002; LatestRevisionNote: Re-released for DXP Platform.; DatasheetDocument: Jun-2002; PackageReference: TQ144; Publisher: Altium Limited; Code_JEDEC: MS-026-BFB; Code_IPC: SQFP20X20-144
footprint TQ144 (144-Pin Thin Quad Flat Pack (TQ144))
3D model XCS10-TQ144 (144-Pin Thin Quad Flat Pack (TQ144))
part A pins: 2 I/O, PGCK1 (86) (io), 3 I/O (89) (io), 4 I/O (92) (io), 5 I/O (95) (io), 6 I/O, TDI (98) (io), 7 I/O, TCK (101) (io), 9 I/O (104) (io), 10 I/O (107) (io), 11 I/O, TMS (110) (io), 12 I/O (113) (io), 13 I/O (116) (io), 14 I/O (119) (io), 15 I/O (122) (io), 16 I/O (125) (io), 19 I/O (128) (io), 20 I/O (131) (io), 21 I/O (134) (io), 22 I/O (137) (io), 23 I/O (140) (io), 24 I/O (143) (io), 25 I/O (146) (io), 26 I/O (149) (io), 28 I/O (152) (io), 29 I/O (155) (io), 30 I/O (158) (io), 31 I/O (161) (io), 32 I/O (164) (io), 33 I/O, SGCK2 (167) (io), 34 NC (170), 36 MODE (173) (in), 38 NC (174), 39 I/O, PGCK2 (175) (io), 40 I/O (HDC) (178) (io), 41 I/O (181) (io), 42 I/O (184) (io), 43 I/O (187) (io), 44 I/O (LDC) (190) (io), 46 I/O (193) (io), 47 I/O (196) (io), 48 I/O (199) (io), 49 I/O (202) (io), 50 I/O (205) (io), 51 I/O (208) (io), 52 I/O (211) (io), 53 I/O (INIT) (214) (io), 56 I/O (217) (io), 57 I/O (220) (io), 58 I/O (223) (io), 59 I/O (226) (io), 60 I/O (229) (io), 61 I/O (232) (io), 62 I/O (235) (io), 63 I/O (238) (io), 65 I/O (241) (io), 66 I/O (244) (io), 67 I/O (247) (io), 68 I/O (250) (io), 69 I/O (253) (io), 70 I/O, SGCK3 (256) (io), 72 DONE (io), 74 PROGRAM (in), 75 I/O (259) (io), 76 I/O, PGCK3 (262) (io), 77 I/O (265) (io), 78 I/O (268) (io), 79 I/O (271) (io), 80 I/O (274) (io), 82 I/O (277) (io), 83 I/O (280) (io), 84 I/O (283) (io), 85 I/O (286) (io), 86 I/O (289) (io), 87 I/O (292) (io), 88 I/O (295) (io), 89 I/O (298) (io), 92 I/O (301) (io), 93 I/O (304) (io), 94 I/O (307) (io), 95 I/O (310) (io), 96 I/O (313) (io), 97 I/O (316) (io), 98 I/O (319) (io), 99 I/O (322) (io), 101 I/O (325) (io), 102 I/O (328) (io), 103 I/O (331) (io), 104 I/O (334) (io), 105 I/O (DIN) (337) (io), 106 I/O, SGCK4 (DOUT) (340) (io), 107 CCLK (io), 109 O, TDO (0) (hiz), 111 I/O (2) (io), 112 I/O, PGCK4 (5) (io), 113 I/O (8) (io), 114 I/O (11) (io), 115 I/O (14) (io), 116 I/O (17) (io), 117 NC, 119 I/O (20) (io), 120 I/O (23) (io), 121 I/O (26) (io), 122 I/O (29) (io), 123 I/O (32) (io), 124 I/O (35) (io), 125 I/O (38) (io), 126 I/O (41) (io), 129 I/O (44) (io), 130 I/O (47) (io), 131 I/O (50) (io), 132 I/O (53) (io), 133 I/O (56) (io), 134 I/O (59) (io), 135 I/O (62) (io), 136 I/O (65) (io), 138 I/O (68) (io), 139 I/O (71) (io), 140 I/O (74) (io), 141 I/O (77) (io), 142 I/O (80) (io), 143 I/O, SGCK1 (83) (io)
part B pins: 1 GND (power), 8 GND (power), 17 GND (power), 18 VCC (power), 27 GND (power), 35 GND (power), 37 VCC (power), 45 GND (power), 54 VCC (power), 55 GND (power), 64 GND (power), 71 GND (power), 73 VCC (power), 81 GND (power), 90 VCC (power), 91 GND (power), 100 GND (power), 108 VCC (power), 110 GND (power), 118 GND (power), 127 GND (power), 128 VCC (power), 137 GND (power), 144 VCC (power)

## XCS10-4VQ100C
designator U?
Spartan FPGA, 100-Pin VQFP, Commercial Grade; PackageDocument: ver1.1, Oct-2002; Published: 13-Jul-2001; LatestRevisionDate: 17-Jul-2002; LatestRevisionNote: Re-released for DXP Platform.; DatasheetDocument: Jun-2002; PackageReference: VQ100; Publisher: Altium Limited; Code_JEDEC: MS-026-AED; Code_IPC: SQFP14X14-100
footprint VQ100 (100-Pin Very Thin Quad Flat Pack (VQ100))
3D model XCS10-VQ100 (100-Pin Very Thin Quad Flat Pack (VQ100))
pins: 1 GND (power), 2 I/O, PGCK1 (86) (io), 3 I/O (89) (io), 4 I/O, TDI (98) (io), 5 I/O, TCK (101) (io), 6 I/O, TMS (110) (io), 7 I/O (113) (io), 8 I/O (119) (io), 9 I/O (122) (io), 10 I/O (125) (io), 11 GND (power), 12 VCC (power), 13 I/O (128) (io), 14 I/O (131) (io), 15 I/O (134) (io), 16 I/O (140) (io), 17 I/O (143) (io), 18 I/O (152) (io), 19 I/O (155) (io), 20 I/O (164) (io), 21 I/O, SGCK2 (167) (io), 22 NC (170), 23 GND (power), 24 MODE (173) (in), 25 VCC (power), 26 NC (174), 27 I/O, PGCK2 (175) (io), 28 I/O (HDC) (178) (io), 29 I/O (187) (io), 30 I/O (LDC) (190) (io), 31 I/O (199) (io), 32 I/O (202) (io), 33 I/O (205) (io), 34 I/O (208) (io), 35 I/O (211) (io), 36 I/O (INIT) (214) (io), 37 VCC (power), 38 GND (power), 39 I/O (217) (io), 40 I/O (220) (io), 41 I/O (223) (io), 42 I/O (226) (io), 43 I/O (229) (io), 44 I/O (232) (io), 45 I/O (241) (io), 46 I/O (244) (io), 47 I/O (253) (io), 48 I/O, SGCK3 (256) (io), 49 GND (power), 50 DONE (io), 51 VCC (power), 52 PROGRAM (in), 53 I/O (259) (io), 54 I/O, PGCK3 (262) (io), 55 I/O (271) (io), 56 I/O (274) (io), 57 I/O (283) (io), 58 I/O (286) (io), 59 I/O (289) (io), 60 I/O (292) (io), 61 I/O (295) (io), 62 I/O (298) (io), 63 VCC (power), 64 GND (power), 65 I/O (301) (io), 66 I/O (304) (io), 67 I/O (307) (io), 68 I/O (313) (io), 69 I/O (316) (io), 70 I/O (325) (io), 71 I/O (328) (io), 72 I/O (DIN) (337) (io), 73 I/O, SGCK4 (DOUT) (340) (io), 74 CCLK (io), 75 VCC (power), 76 O, TDO (0) (hiz), 77 GND (power), 78 I/O (2) (io), 79 I/O, PGCK4 (5) (io), 80 I/O (14) (io), 81 I/O (17) (io), 82 I/O (26) (io), 83 I/O (29) (io), 84 I/O (32) (io), 85 I/O (35) (io), 86 I/O (38) (io), 87 I/O (41) (io), 88 GND (power), 89 VCC (power), 90 I/O (44) (io), 91 I/O (47) (io), 92 I/O (50) (io), 93 I/O (53) (io), 94 I/O (56) (io), 95 I/O (59) (io), 96 I/O (68) (io), 97 I/O (71) (io), 98 I/O (80) (io), 99 I/O, SGCK1 (83) (io), 100 VCC (power)

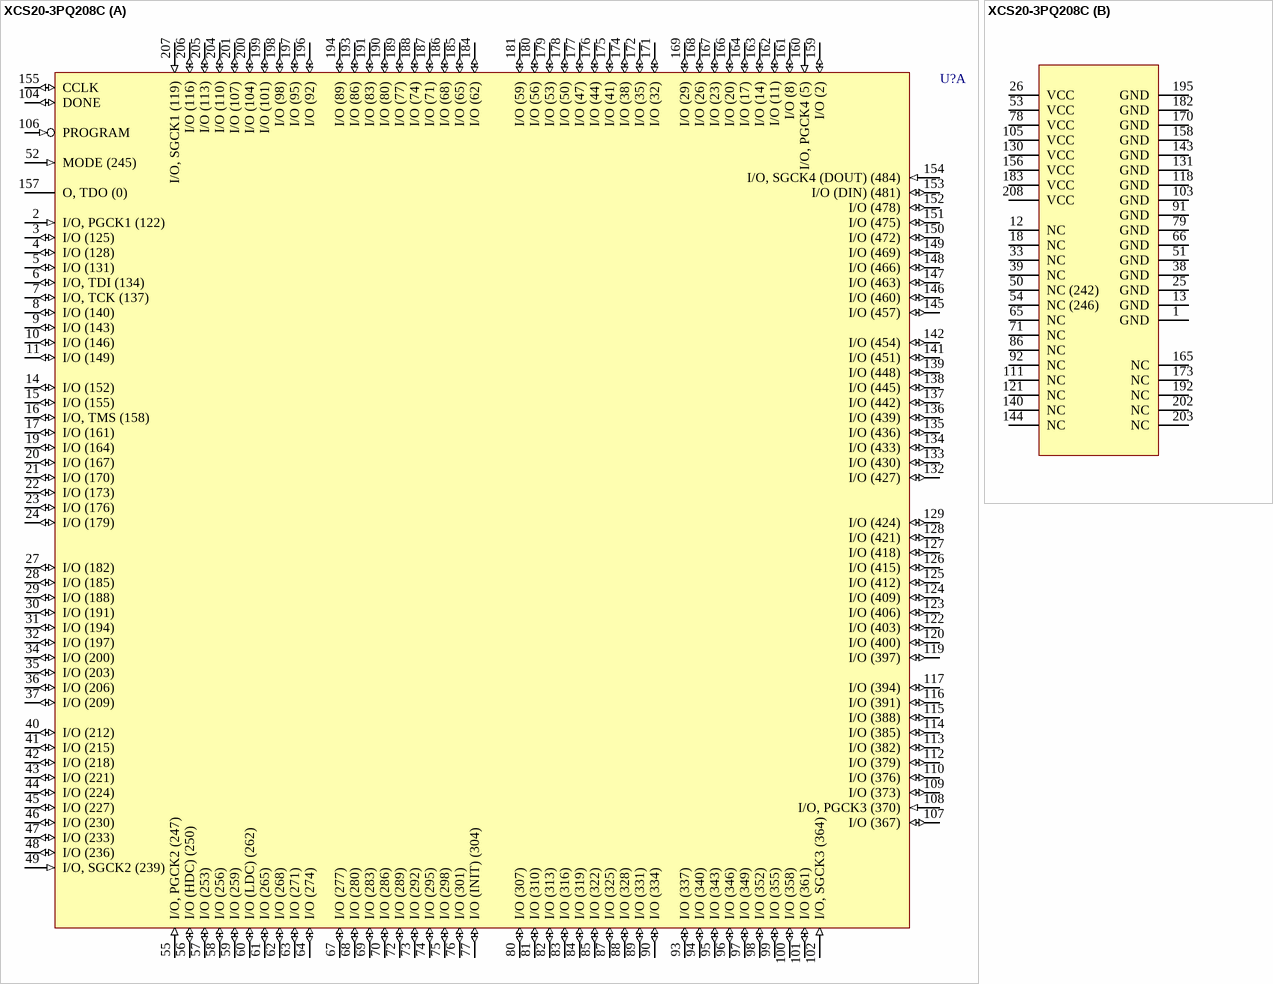
[diagram p4: symbol XCS20-3PQ208C]

## XCS20-3PQ208C
designator U?
Spartan FPGA, 208-Pin PQFP, Commercial Grade; PackageDocument: ver1.1, Oct-2002; Published: 13-Jul-2001; LatestRevisionDate: 17-Jul-2002; LatestRevisionNote: Re-released for DXP Platform.; DatasheetDocument: Jun-2002; PackageReference: PQ208; Publisher: Altium Limited; Code_JEDEC: MS-029-FA-1
footprint PQ208 (208-Pin Plastic Quad Flat Pack (PQ208))
3D model XCS20-PQ208 (208-Pin Plastic Quad Flat Pack (PQ208))
part A pins: 2 I/O, PGCK1 (122) (in), 3 I/O (125) (io), 4 I/O (128) (io), 5 I/O (131) (io), 6 I/O, TDI (134) (io), 7 I/O, TCK (137) (io), 8 I/O (140) (io), 9 I/O (143) (io), 10 I/O (146) (io), 11 I/O (149) (io), 14 I/O (152) (io), 15 I/O (155) (io), 16 I/O, TMS (158) (io), 17 I/O (161) (io), 19 I/O (164) (io), 20 I/O (167) (io), 21 I/O (170) (io), 22 I/O (173) (io), 23 I/O (176) (io), 24 I/O (179) (io), 27 I/O (182) (io), 28 I/O (185) (io), 29 I/O (188) (io), 30 I/O (191) (io), 31 I/O (194) (io), 32 I/O (197) (io), 34 I/O (200) (io), 35 I/O (203) (io), 36 I/O (206) (io), 37 I/O (209) (io), 40 I/O (212) (io), 41 I/O (215) (io), 42 I/O (218) (io), 43 I/O (221) (io), 44 I/O (224) (io), 45 I/O (227) (io), 46 I/O (230) (io), 47 I/O (233) (io), 48 I/O (236) (io), 49 I/O, SGCK2 (239) (in), 52 MODE (245) (in), 55 I/O, PGCK2 (247) (in), 56 I/O (HDC) (250) (io), 57 I/O (253) (io), 58 I/O (256) (io), 59 I/O (259) (io), 60 I/O (LDC) (262) (io), 61 I/O (265) (io), 62 I/O (268) (io), 63 I/O (271) (io), 64 I/O (274) (io), 67 I/O (277) (io), 68 I/O (280) (io), 69 I/O (283) (io), 70 I/O (286) (io), 72 I/O (289) (io), 73 I/O (292) (io), 74 I/O (295) (io), 75 I/O (298) (io), 76 I/O (301) (io), 77 I/O (INIT) (304) (io), 80 I/O (307) (io), 81 I/O (310) (io), 82 I/O (313) (io), 83 I/O (316) (io), 84 I/O (319) (io), 85 I/O (322) (io), 87 I/O (325) (io), 88 I/O (328) (io), 89 I/O (331) (io), 90 I/O (334) (io), 93 I/O (337) (io), 94 I/O (340) (io), 95 I/O (343) (io), 96 I/O (346) (io), 97 I/O (349) (io), 98 I/O (352) (io), 99 I/O (355) (io), 100 I/O (358) (io), 101 I/O (361) (io), 102 I/O, SGCK3 (364) (in), 104 DONE (io), 106 PROGRAM (in), 107 I/O (367) (io), 108 I/O, PGCK3 (370) (in), 109 I/O (373) (io), 110 I/O (376) (io), 112 I/O (379) (io), 113 I/O (382) (io), 114 I/O (385) (io), 115 I/O (388) (io), 116 I/O (391) (io), 117 I/O (394) (io), 119 I/O (397) (io), 120 I/O (400) (io), 122 I/O (403) (io), 123 I/O (406) (io), 124 I/O (409) (io), 125 I/O (412) (io), 126 I/O (415) (io), 127 I/O (418) (io), 128 I/O (421) (io), 129 I/O (424) (io), 132 I/O (427) (io), 133 I/O (430) (io), 134 I/O (433) (io), 135 I/O (436) (io), 136 I/O (439) (io), 137 I/O (442) (io), 138 I/O (445) (io), 139 I/O (448) (io), 141 I/O (451) (io), 142 I/O (454) (io), 145 I/O (457) (io), 146 I/O (460) (io), 147 I/O (463) (io), 148 I/O (466) (io), 149 I/O (469) (io), 150 I/O (472) (io), 151 I/O (475) (io), 152 I/O (478) (io), 153 I/O (DIN) (481) (io), 154 I/O, SGCK4 (DOUT) (484) (in), 155 CCLK (io), 157 O, TDO (0) (hiz), 159 I/O (2) (io), 160 I/O, PGCK4 (5) (in), 161 I/O (8) (io), 162 I/O (11) (io), 163 I/O (14) (io), 164 I/O (17) (io), 166 I/O (20) (io), 167 I/O (23) (io), 168 I/O (26) (io), 169 I/O (29) (io), 171 I/O (32) (io), 172 I/O (35) (io), 174 I/O (38) (io), 175 I/O (41) (io), 176 I/O (44) (io), 177 I/O (47) (io), 178 I/O (50) (io), 179 I/O (53) (io), 180 I/O (56) (io), 181 I/O (59) (io), 184 I/O (62) (io), 185 I/O (65) (io), 186 I/O (68) (io), 187 I/O (71) (io), 188 I/O (74) (io), 189 I/O (77) (io), 190 I/O (80) (io), 191 I/O (83) (io), 193 I/O (86) (io), 194 I/O (89) (io), 196 I/O (92) (io), 197 I/O (95) (io), 198 I/O (98) (io), 199 I/O (101) (io), 200 I/O (104) (io), 201 I/O (107) (io), 204 I/O (110) (io), 205 I/O (113) (io), 206 I/O (116) (io), 207 I/O, SGCK1 (119) (in)
part B pins: 1 GND (power), 12 NC, 13 GND (power), 18 NC, 25 GND (power), 26 VCC (power), 33 NC, 38 GND (power), 39 NC, 50 NC (242), 51 GND (power), 53 VCC (power), 54 NC (246), 65 NC, 66 GND (power), 71 NC, 78 VCC (power), 79 GND (power), 86 NC, 91 GND (power), 92 NC, 103 GND (power), 105 VCC (power), 111 NC, 118 GND (power), 121 NC, 130 VCC (power), 131 GND (power), 140 NC, 143 GND (power), 144 NC, 156 VCC (power), 158 GND (power), 165 NC, 170 GND (power), 173 NC, 182 GND (power), 183 VCC (power), 192 NC, 195 GND (power), 202 NC, 203 NC, 208 VCC (power)

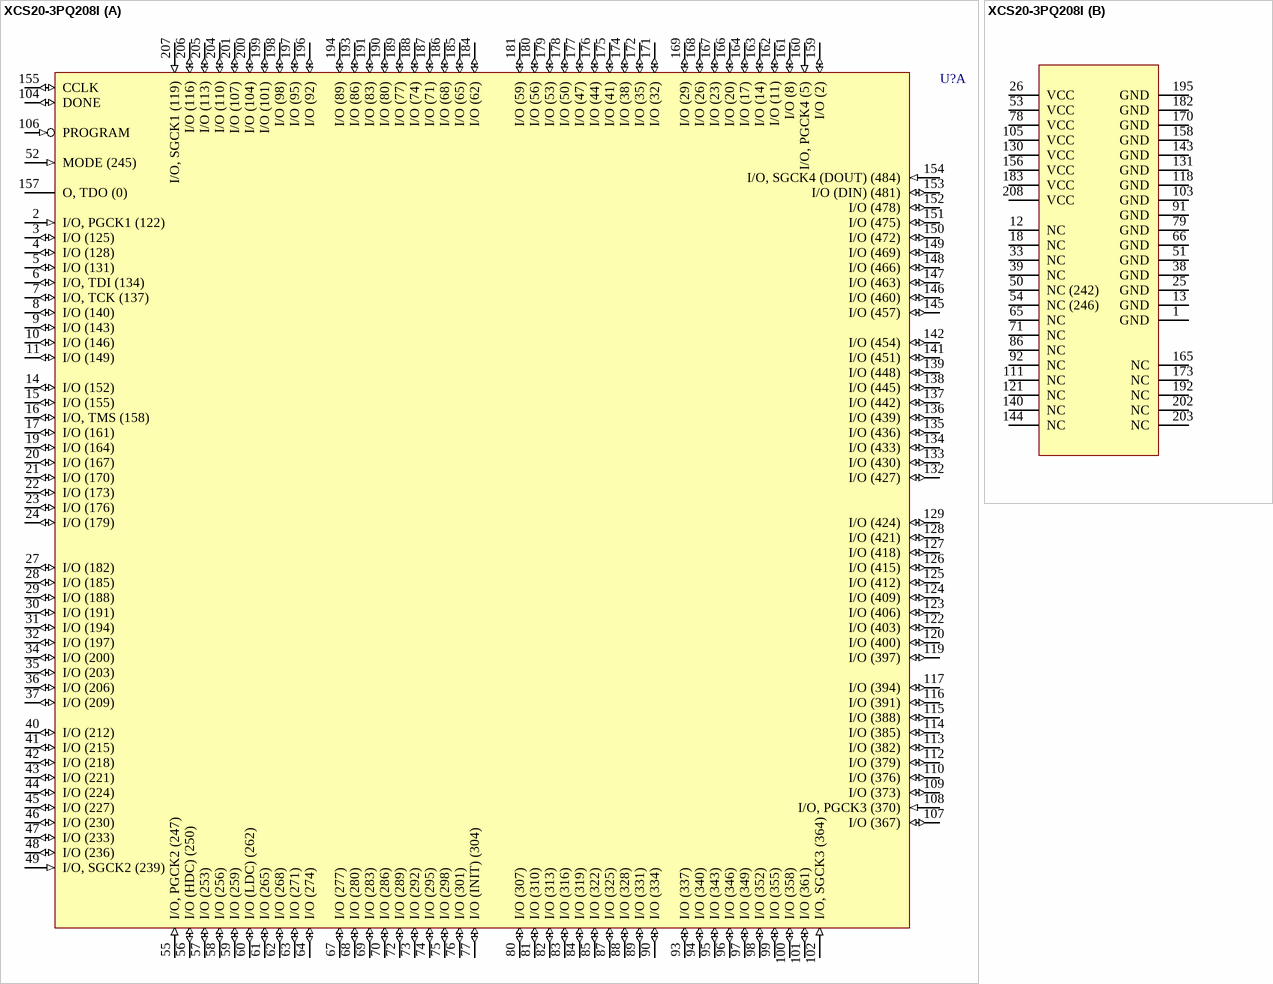
[diagram p5: symbol XCS20-3PQ208I]

## XCS20-3PQ208I
designator U?
Spartan FPGA, 208-Pin PQFP, Industrial Grade; PackageDocument: ver1.1, Oct-2002; Published: 13-Jul-2001; LatestRevisionDate: 17-Jul-2002; LatestRevisionNote: Re-released for DXP Platform.; DatasheetDocument: Jun-2002; PackageReference: PQ208; Publisher: Altium Limited; Code_JEDEC: MS-029-FA-1
footprint PQ208 (208-Pin Plastic Quad Flat Pack (PQ208))
3D model XCS20-PQ208 (208-Pin Plastic Quad Flat Pack (PQ208))
part A pins: 2 I/O, PGCK1 (122) (in), 3 I/O (125) (io), 4 I/O (128) (io), 5 I/O (131) (io), 6 I/O, TDI (134) (io), 7 I/O, TCK (137) (io), 8 I/O (140) (io), 9 I/O (143) (io), 10 I/O (146) (io), 11 I/O (149) (io), 14 I/O (152) (io), 15 I/O (155) (io), 16 I/O, TMS (158) (io), 17 I/O (161) (io), 19 I/O (164) (io), 20 I/O (167) (io), 21 I/O (170) (io), 22 I/O (173) (io), 23 I/O (176) (io), 24 I/O (179) (io), 27 I/O (182) (io), 28 I/O (185) (io), 29 I/O (188) (io), 30 I/O (191) (io), 31 I/O (194) (io), 32 I/O (197) (io), 34 I/O (200) (io), 35 I/O (203) (io), 36 I/O (206) (io), 37 I/O (209) (io), 40 I/O (212) (io), 41 I/O (215) (io), 42 I/O (218) (io), 43 I/O (221) (io), 44 I/O (224) (io), 45 I/O (227) (io), 46 I/O (230) (io), 47 I/O (233) (io), 48 I/O (236) (io), 49 I/O, SGCK2 (239) (in), 52 MODE (245) (in), 55 I/O, PGCK2 (247) (in), 56 I/O (HDC) (250) (io), 57 I/O (253) (io), 58 I/O (256) (io), 59 I/O (259) (io), 60 I/O (LDC) (262) (io), 61 I/O (265) (io), 62 I/O (268) (io), 63 I/O (271) (io), 64 I/O (274) (io), 67 I/O (277) (io), 68 I/O (280) (io), 69 I/O (283) (io), 70 I/O (286) (io), 72 I/O (289) (io), 73 I/O (292) (io), 74 I/O (295) (io), 75 I/O (298) (io), 76 I/O (301) (io), 77 I/O (INIT) (304) (io), 80 I/O (307) (io), 81 I/O (310) (io), 82 I/O (313) (io), 83 I/O (316) (io), 84 I/O (319) (io), 85 I/O (322) (io), 87 I/O (325) (io), 88 I/O (328) (io), 89 I/O (331) (io), 90 I/O (334) (io), 93 I/O (337) (io), 94 I/O (340) (io), 95 I/O (343) (io), 96 I/O (346) (io), 97 I/O (349) (io), 98 I/O (352) (io), 99 I/O (355) (io), 100 I/O (358) (io), 101 I/O (361) (io), 102 I/O, SGCK3 (364) (in), 104 DONE (io), 106 PROGRAM (in), 107 I/O (367) (io), 108 I/O, PGCK3 (370) (in), 109 I/O (373) (io), 110 I/O (376) (io), 112 I/O (379) (io), 113 I/O (382) (io), 114 I/O (385) (io), 115 I/O (388) (io), 116 I/O (391) (io), 117 I/O (394) (io), 119 I/O (397) (io), 120 I/O (400) (io), 122 I/O (403) (io), 123 I/O (406) (io), 124 I/O (409) (io), 125 I/O (412) (io), 126 I/O (415) (io), 127 I/O (418) (io), 128 I/O (421) (io), 129 I/O (424) (io), 132 I/O (427) (io), 133 I/O (430) (io), 134 I/O (433) (io), 135 I/O (436) (io), 136 I/O (439) (io), 137 I/O (442) (io), 138 I/O (445) (io), 139 I/O (448) (io), 141 I/O (451) (io), 142 I/O (454) (io), 145 I/O (457) (io), 146 I/O (460) (io), 147 I/O (463) (io), 148 I/O (466) (io), 149 I/O (469) (io), 150 I/O (472) (io), 151 I/O (475) (io), 152 I/O (478) (io), 153 I/O (DIN) (481) (io), 154 I/O, SGCK4 (DOUT) (484) (in), 155 CCLK (io), 157 O, TDO (0) (hiz), 159 I/O (2) (io), 160 I/O, PGCK4 (5) (in), 161 I/O (8) (io), 162 I/O (11) (io), 163 I/O (14) (io), 164 I/O (17) (io), 166 I/O (20) (io), 167 I/O (23) (io), 168 I/O (26) (io), 169 I/O (29) (io), 171 I/O (32) (io), 172 I/O (35) (io), 174 I/O (38) (io), 175 I/O (41) (io), 176 I/O (44) (io), 177 I/O (47) (io), 178 I/O (50) (io), 179 I/O (53) (io), 180 I/O (56) (io), 181 I/O (59) (io), 184 I/O (62) (io), 185 I/O (65) (io), 186 I/O (68) (io), 187 I/O (71) (io), 188 I/O (74) (io), 189 I/O (77) (io), 190 I/O (80) (io), 191 I/O (83) (io), 193 I/O (86) (io), 194 I/O (89) (io), 196 I/O (92) (io), 197 I/O (95) (io), 198 I/O (98) (io), 199 I/O (101) (io), 200 I/O (104) (io), 201 I/O (107) (io), 204 I/O (110) (io), 205 I/O (113) (io), 206 I/O (116) (io), 207 I/O, SGCK1 (119) (in)
part B pins: 1 GND (power), 12 NC, 13 GND (power), 18 NC, 25 GND (power), 26 VCC (power), 33 NC, 38 GND (power), 39 NC, 50 NC (242), 51 GND (power), 53 VCC (power), 54 NC (246), 65 NC, 66 GND (power), 71 NC, 78 VCC (power), 79 GND (power), 86 NC, 91 GND (power), 92 NC, 103 GND (power), 105 VCC (power), 111 NC, 118 GND (power), 121 NC, 130 VCC (power), 131 GND (power), 140 NC, 143 GND (power), 144 NC, 156 VCC (power), 158 GND (power), 165 NC, 170 GND (power), 173 NC, 182 GND (power), 183 VCC (power), 192 NC, 195 GND (power), 202 NC, 203 NC, 208 VCC (power)

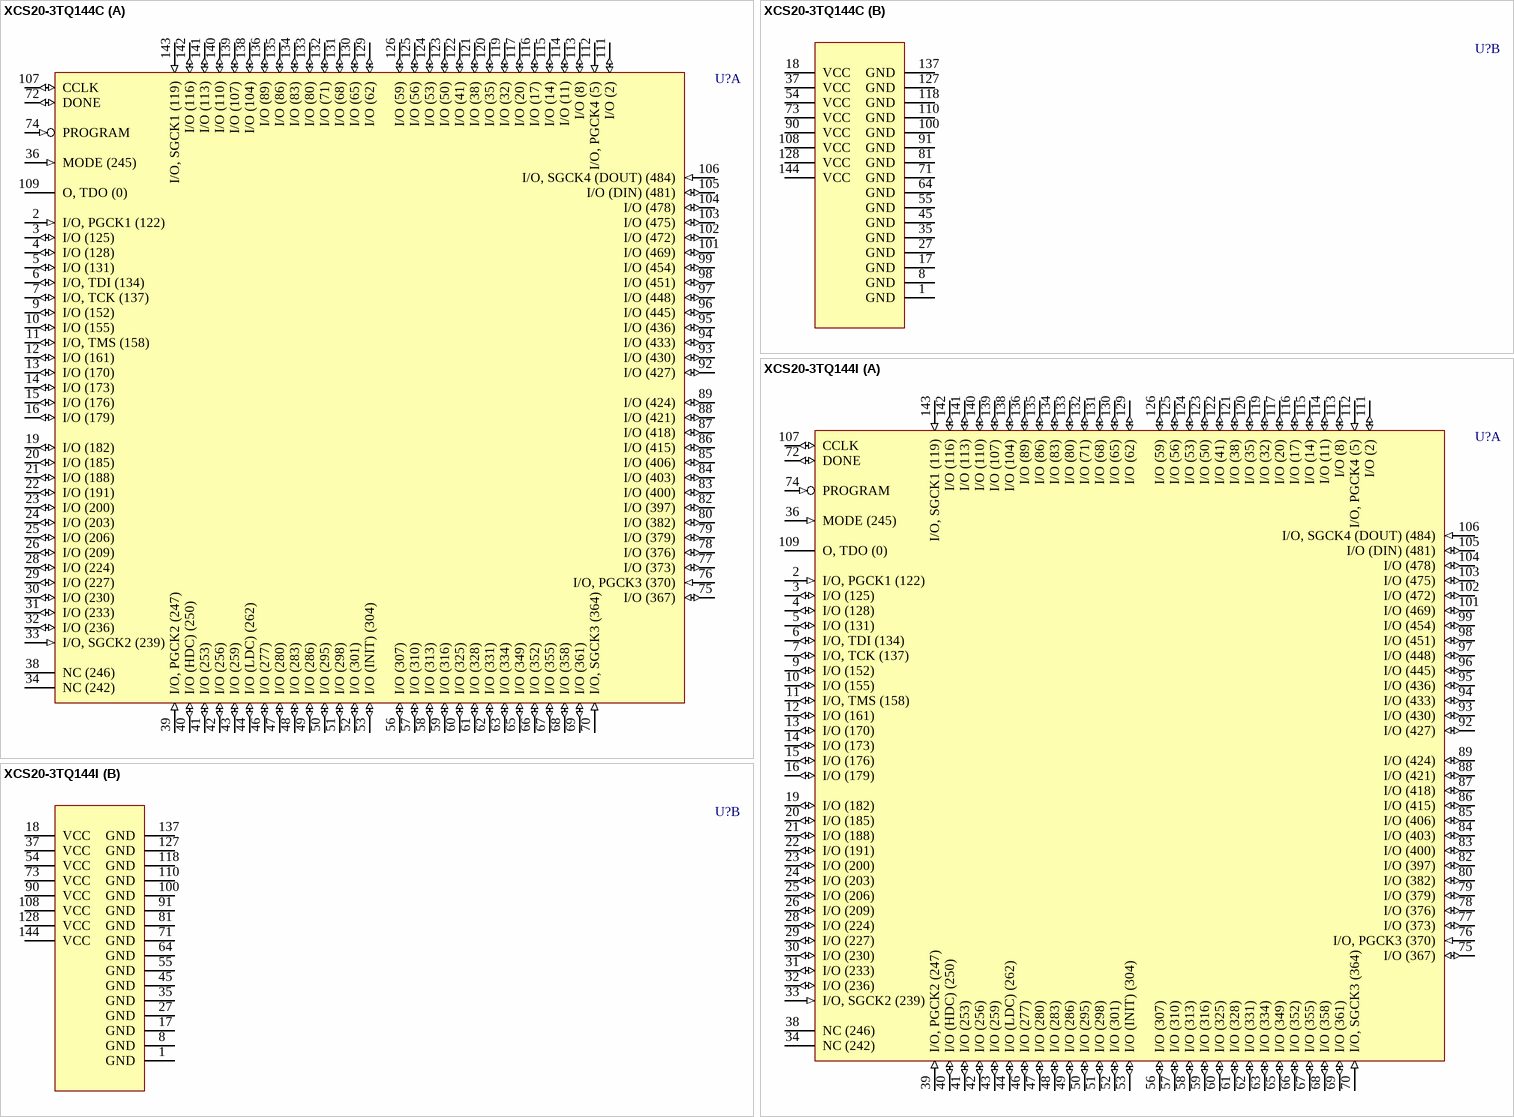
[diagram p6: symbols XCS20-3TQ144C to XCS20-3TQ144I]

## XCS20-3TQ144C
designator U?
Spartan FPGA, 144-Pin TQFP, Commercial Grade; PackageDocument: ver1.1, Oct-2002; Published: 13-Jul-2001; LatestRevisionDate: 17-Jul-2002; LatestRevisionNote: Re-released for DXP Platform.; DatasheetDocument: Jun-2002; PackageReference: TQ144; Publisher: Altium Limited; Code_JEDEC: MS-026-BFB; Code_IPC: SQFP20X20-144
footprint TQ144 (144-Pin Thin Quad Flat Pack (TQ144))
3D model XCS20-TQ144 (144-Pin Thin Quad Flat Pack (TQ144))
part A pins: 2 I/O, PGCK1 (122) (in), 3 I/O (125) (io), 4 I/O (128) (io), 5 I/O (131) (io), 6 I/O, TDI (134) (io), 7 I/O, TCK (137) (io), 9 I/O (152) (io), 10 I/O (155) (io), 11 I/O, TMS (158) (io), 12 I/O (161) (io), 13 I/O (170) (io), 14 I/O (173) (io), 15 I/O (176) (io), 16 I/O (179) (io), 19 I/O (182) (io), 20 I/O (185) (io), 21 I/O (188) (io), 22 I/O (191) (io), 23 I/O (200) (io), 24 I/O (203) (io), 25 I/O (206) (io), 26 I/O (209) (io), 28 I/O (224) (io), 29 I/O (227) (io), 30 I/O (230) (io), 31 I/O (233) (io), 32 I/O (236) (io), 33 I/O, SGCK2 (239) (in), 34 NC (242), 36 MODE (245) (in), 38 NC (246), 39 I/O, PGCK2 (247) (in), 40 I/O (HDC) (250) (io), 41 I/O (253) (io), 42 I/O (256) (io), 43 I/O (259) (io), 44 I/O (LDC) (262) (io), 46 I/O (277) (io), 47 I/O (280) (io), 48 I/O (283) (io), 49 I/O (286) (io), 50 I/O (295) (io), 51 I/O (298) (io), 52 I/O (301) (io), 53 I/O (INIT) (304) (io), 56 I/O (307) (io), 57 I/O (310) (io), 58 I/O (313) (io), 59 I/O (316) (io), 60 I/O (325) (io), 61 I/O (328) (io), 62 I/O (331) (io), 63 I/O (334) (io), 65 I/O (349) (io), 66 I/O (352) (io), 67 I/O (355) (io), 68 I/O (358) (io), 69 I/O (361) (io), 70 I/O, SGCK3 (364) (in), 72 DONE (io), 74 PROGRAM (in), 75 I/O (367) (io), 76 I/O, PGCK3 (370) (in), 77 I/O (373) (io), 78 I/O (376) (io), 79 I/O (379) (io), 80 I/O (382) (io), 82 I/O (397) (io), 83 I/O (400) (io), 84 I/O (403) (io), 85 I/O (406) (io), 86 I/O (415) (io), 87 I/O (418) (io), 88 I/O (421) (io), 89 I/O (424) (io), 92 I/O (427) (io), 93 I/O (430) (io), 94 I/O (433) (io), 95 I/O (436) (io), 96 I/O (445) (io), 97 I/O (448) (io), 98 I/O (451) (io), 99 I/O (454) (io), 101 I/O (469) (io), 102 I/O (472) (io), 103 I/O (475) (io), 104 I/O (478) (io), 105 I/O (DIN) (481) (io), 106 I/O, SGCK4 (DOUT) (484) (in), 107 CCLK (io), 109 O, TDO (0) (hiz), 111 I/O (2) (io), 112 I/O, PGCK4 (5) (in), 113 I/O (8) (io), 114 I/O (11) (io), 115 I/O (14) (io), 116 I/O (17) (io), 117 I/O (20) (io), 119 I/O (32) (io), 120 I/O (35) (io), 121 I/O (38) (io), 122 I/O (41) (io), 123 I/O (50) (io), 124 I/O (53) (io), 125 I/O (56) (io), 126 I/O (59) (io), 129 I/O (62) (io), 130 I/O (65) (io), 131 I/O (68) (io), 132 I/O (71) (io), 133 I/O (80) (io), 134 I/O (83) (io), 135 I/O (86) (io), 136 I/O (89) (io), 138 I/O (104) (io), 139 I/O (107) (io), 140 I/O (110) (io), 141 I/O (113) (io), 142 I/O (116) (io), 143 I/O, SGCK1 (119) (in)
part B pins: 1 GND (power), 8 GND (power), 17 GND (power), 18 VCC (power), 27 GND (power), 35 GND (power), 37 VCC (power), 45 GND (power), 54 VCC (power), 55 GND (power), 64 GND (power), 71 GND (power), 73 VCC (power), 81 GND (power), 90 VCC (power), 91 GND (power), 100 GND (power), 108 VCC (power), 110 GND (power), 118 GND (power), 127 GND (power), 128 VCC (power), 137 GND (power), 144 VCC (power)

## XCS20-3TQ144I
designator U?
Spartan FPGA, 144-Pin TQFP, Industrial Grade; PackageDocument: ver1.1, Oct-2002; Published: 13-Jul-2001; LatestRevisionDate: 17-Jul-2002; LatestRevisionNote: Re-released for DXP Platform.; DatasheetDocument: Jun-2002; PackageReference: TQ144; Publisher: Altium Limited; Code_JEDEC: MS-026-BFB; Code_IPC: SQFP20X20-144
footprint TQ144 (144-Pin Thin Quad Flat Pack (TQ144))
3D model XCS20-TQ144 (144-Pin Thin Quad Flat Pack (TQ144))
part A pins: 2 I/O, PGCK1 (122) (in), 3 I/O (125) (io), 4 I/O (128) (io), 5 I/O (131) (io), 6 I/O, TDI (134) (io), 7 I/O, TCK (137) (io), 9 I/O (152) (io), 10 I/O (155) (io), 11 I/O, TMS (158) (io), 12 I/O (161) (io), 13 I/O (170) (io), 14 I/O (173) (io), 15 I/O (176) (io), 16 I/O (179) (io), 19 I/O (182) (io), 20 I/O (185) (io), 21 I/O (188) (io), 22 I/O (191) (io), 23 I/O (200) (io), 24 I/O (203) (io), 25 I/O (206) (io), 26 I/O (209) (io), 28 I/O (224) (io), 29 I/O (227) (io), 30 I/O (230) (io), 31 I/O (233) (io), 32 I/O (236) (io), 33 I/O, SGCK2 (239) (in), 34 NC (242), 36 MODE (245) (in), 38 NC (246), 39 I/O, PGCK2 (247) (in), 40 I/O (HDC) (250) (io), 41 I/O (253) (io), 42 I/O (256) (io), 43 I/O (259) (io), 44 I/O (LDC) (262) (io), 46 I/O (277) (io), 47 I/O (280) (io), 48 I/O (283) (io), 49 I/O (286) (io), 50 I/O (295) (io), 51 I/O (298) (io), 52 I/O (301) (io), 53 I/O (INIT) (304) (io), 56 I/O (307) (io), 57 I/O (310) (io), 58 I/O (313) (io), 59 I/O (316) (io), 60 I/O (325) (io), 61 I/O (328) (io), 62 I/O (331) (io), 63 I/O (334) (io), 65 I/O (349) (io), 66 I/O (352) (io), 67 I/O (355) (io), 68 I/O (358) (io), 69 I/O (361) (io), 70 I/O, SGCK3 (364) (in), 72 DONE (io), 74 PROGRAM (in), 75 I/O (367) (io), 76 I/O, PGCK3 (370) (in), 77 I/O (373) (io), 78 I/O (376) (io), 79 I/O (379) (io), 80 I/O (382) (io), 82 I/O (397) (io), 83 I/O (400) (io), 84 I/O (403) (io), 85 I/O (406) (io), 86 I/O (415) (io), 87 I/O (418) (io), 88 I/O (421) (io), 89 I/O (424) (io), 92 I/O (427) (io), 93 I/O (430) (io), 94 I/O (433) (io), 95 I/O (436) (io), 96 I/O (445) (io), 97 I/O (448) (io), 98 I/O (451) (io), 99 I/O (454) (io), 101 I/O (469) (io), 102 I/O (472) (io), 103 I/O (475) (io), 104 I/O (478) (io), 105 I/O (DIN) (481) (io), 106 I/O, SGCK4 (DOUT) (484) (in), 107 CCLK (io), 109 O, TDO (0) (hiz), 111 I/O (2) (io), 112 I/O, PGCK4 (5) (in), 113 I/O (8) (io), 114 I/O (11) (io), 115 I/O (14) (io), 116 I/O (17) (io), 117 I/O (20) (io), 119 I/O (32) (io), 120 I/O (35) (io), 121 I/O (38) (io), 122 I/O (41) (io), 123 I/O (50) (io), 124 I/O (53) (io), 125 I/O (56) (io), 126 I/O (59) (io), 129 I/O (62) (io), 130 I/O (65) (io), 131 I/O (68) (io), 132 I/O (71) (io), 133 I/O (80) (io), 134 I/O (83) (io), 135 I/O (86) (io), 136 I/O (89) (io), 138 I/O (104) (io), 139 I/O (107) (io), 140 I/O (110) (io), 141 I/O (113) (io), 142 I/O (116) (io), 143 I/O, SGCK1 (119) (in)
part B pins: 1 GND (power), 8 GND (power), 17 GND (power), 18 VCC (power), 27 GND (power), 35 GND (power), 37 VCC (power), 45 GND (power), 54 VCC (power), 55 GND (power), 64 GND (power), 71 GND (power), 73 VCC (power), 81 GND (power), 90 VCC (power), 91 GND (power), 100 GND (power), 108 VCC (power), 110 GND (power), 118 GND (power), 127 GND (power), 128 VCC (power), 137 GND (power), 144 VCC (power)

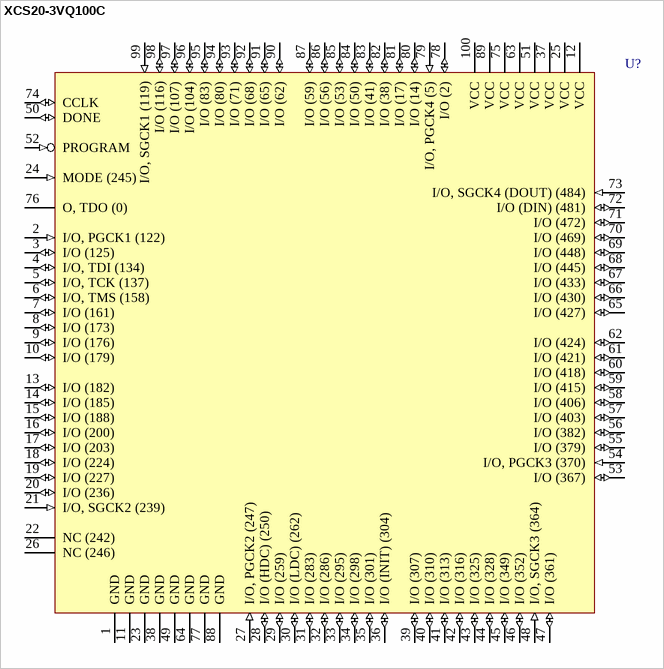
[diagram p7: symbol XCS20-3VQ100C]

## XCS20-3VQ100C
designator U?
Spartan FPGA, 100-Pin VQFP, Commercial Grade; PackageDocument: ver1.1, Oct-2002; Published: 13-Jul-2001; LatestRevisionDate: 17-Jul-2002; LatestRevisionNote: Re-released for DXP Platform.; DatasheetDocument: Jun-2002; PackageReference: VQ100; Publisher: Altium Limited; Code_JEDEC: MS-026-AED; Code_IPC: SQFP14X14-100
footprint VQ100 (100-Pin Very Thin Quad Flat Pack (VQ100))
3D model XCS20-VQ100 (100-Pin Very Thin Quad Flat Pack (VQ100))
pins: 1 GND (power), 2 I/O, PGCK1 (122) (in), 3 I/O (125) (io), 4 I/O, TDI (134) (io), 5 I/O, TCK (137) (io), 6 I/O, TMS (158) (io), 7 I/O (161) (io), 8 I/O (173) (io), 9 I/O (176) (io), 10 I/O (179) (io), 11 GND (power), 12 VCC (power), 13 I/O (182) (io), 14 I/O (185) (io), 15 I/O (188) (io), 16 I/O (200) (io), 17 I/O (203) (io), 18 I/O (224) (io), 19 I/O (227) (io), 20 I/O (236) (io), 21 I/O, SGCK2 (239) (in), 22 NC (242), 23 GND (power), 24 MODE (245) (in), 25 VCC (power), 26 NC (246), 27 I/O, PGCK2 (247) (in), 28 I/O (HDC) (250) (io), 29 I/O (259) (io), 30 I/O (LDC) (262) (io), 31 I/O (283) (io), 32 I/O (286) (io), 33 I/O (295) (io), 34 I/O (298) (io), 35 I/O (301) (io), 36 I/O (INIT) (304) (io), 37 VCC (power), 38 GND (power), 39 I/O (307) (io), 40 I/O (310) (io), 41 I/O (313) (io), 42 I/O (316) (io), 43 I/O (325) (io), 44 I/O (328) (io), 45 I/O (349) (io), 46 I/O (352) (io), 47 I/O (361) (io), 48 I/O, SGCK3 (364) (in), 49 GND (power), 50 DONE (io), 51 VCC (power), 52 PROGRAM (in), 53 I/O (367) (io), 54 I/O, PGCK3 (370) (in), 55 I/O (379) (io), 56 I/O (382) (io), 57 I/O (403) (io), 58 I/O (406) (io), 59 I/O (415) (io), 60 I/O (418) (io), 61 I/O (421) (io), 62 I/O (424) (io), 63 VCC (power), 64 GND (power), 65 I/O (427) (io), 66 I/O (430) (io), 67 I/O (433) (io), 68 I/O (445) (io), 69 I/O (448) (io), 70 I/O (469) (io), 71 I/O (472) (io), 72 I/O (DIN) (481) (io), 73 I/O, SGCK4 (DOUT) (484) (in), 74 CCLK (io), 75 VCC (power), 76 O, TDO (0) (hiz), 77 GND (power), 78 I/O (2) (io), 79 I/O, PGCK4 (5) (in), 80 I/O (14) (io), 81 I/O (17) (io), 82 I/O (38) (io), 83 I/O (41) (io), 84 I/O (50) (io), 85 I/O (53) (io), 86 I/O (56) (io), 87 I/O (59) (io), 88 GND (power), 89 VCC (power), 90 I/O (62) (io), 91 I/O (65) (io), 92 I/O (68) (io), 93 I/O (71) (io), 94 I/O (80) (io), 95 I/O (83) (io), 96 I/O (104) (io), 97 I/O (107) (io), 98 I/O (116) (io), 99 I/O, SGCK1 (119) (in), 100 VCC (power)

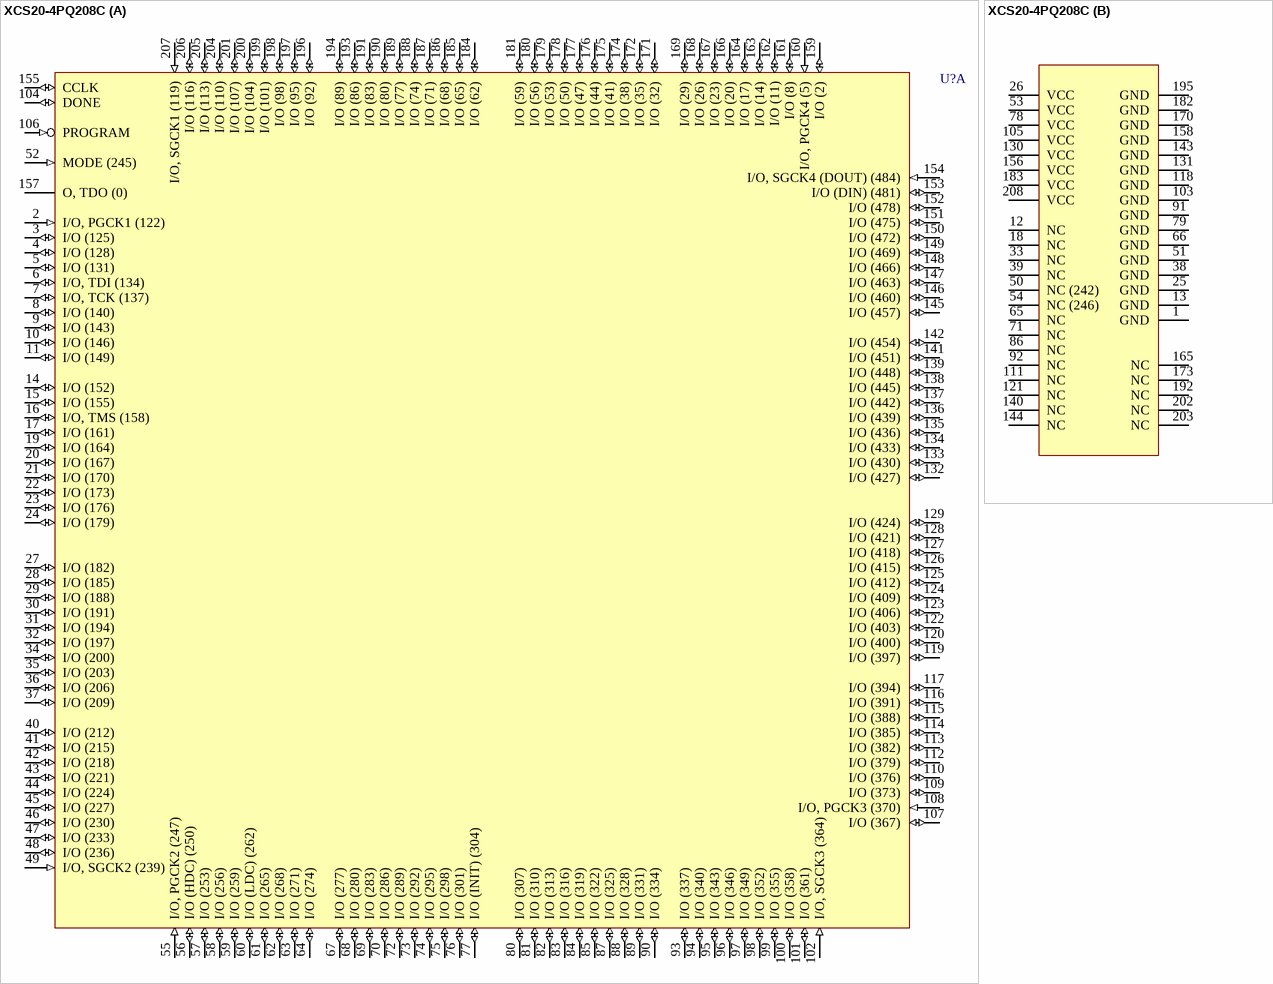
[diagram p8: symbol XCS20-4PQ208C]